# Altium schematic symbol library CM3_CM4_2021_Lib.SchLib: 258 symbols (part 2 of 4)
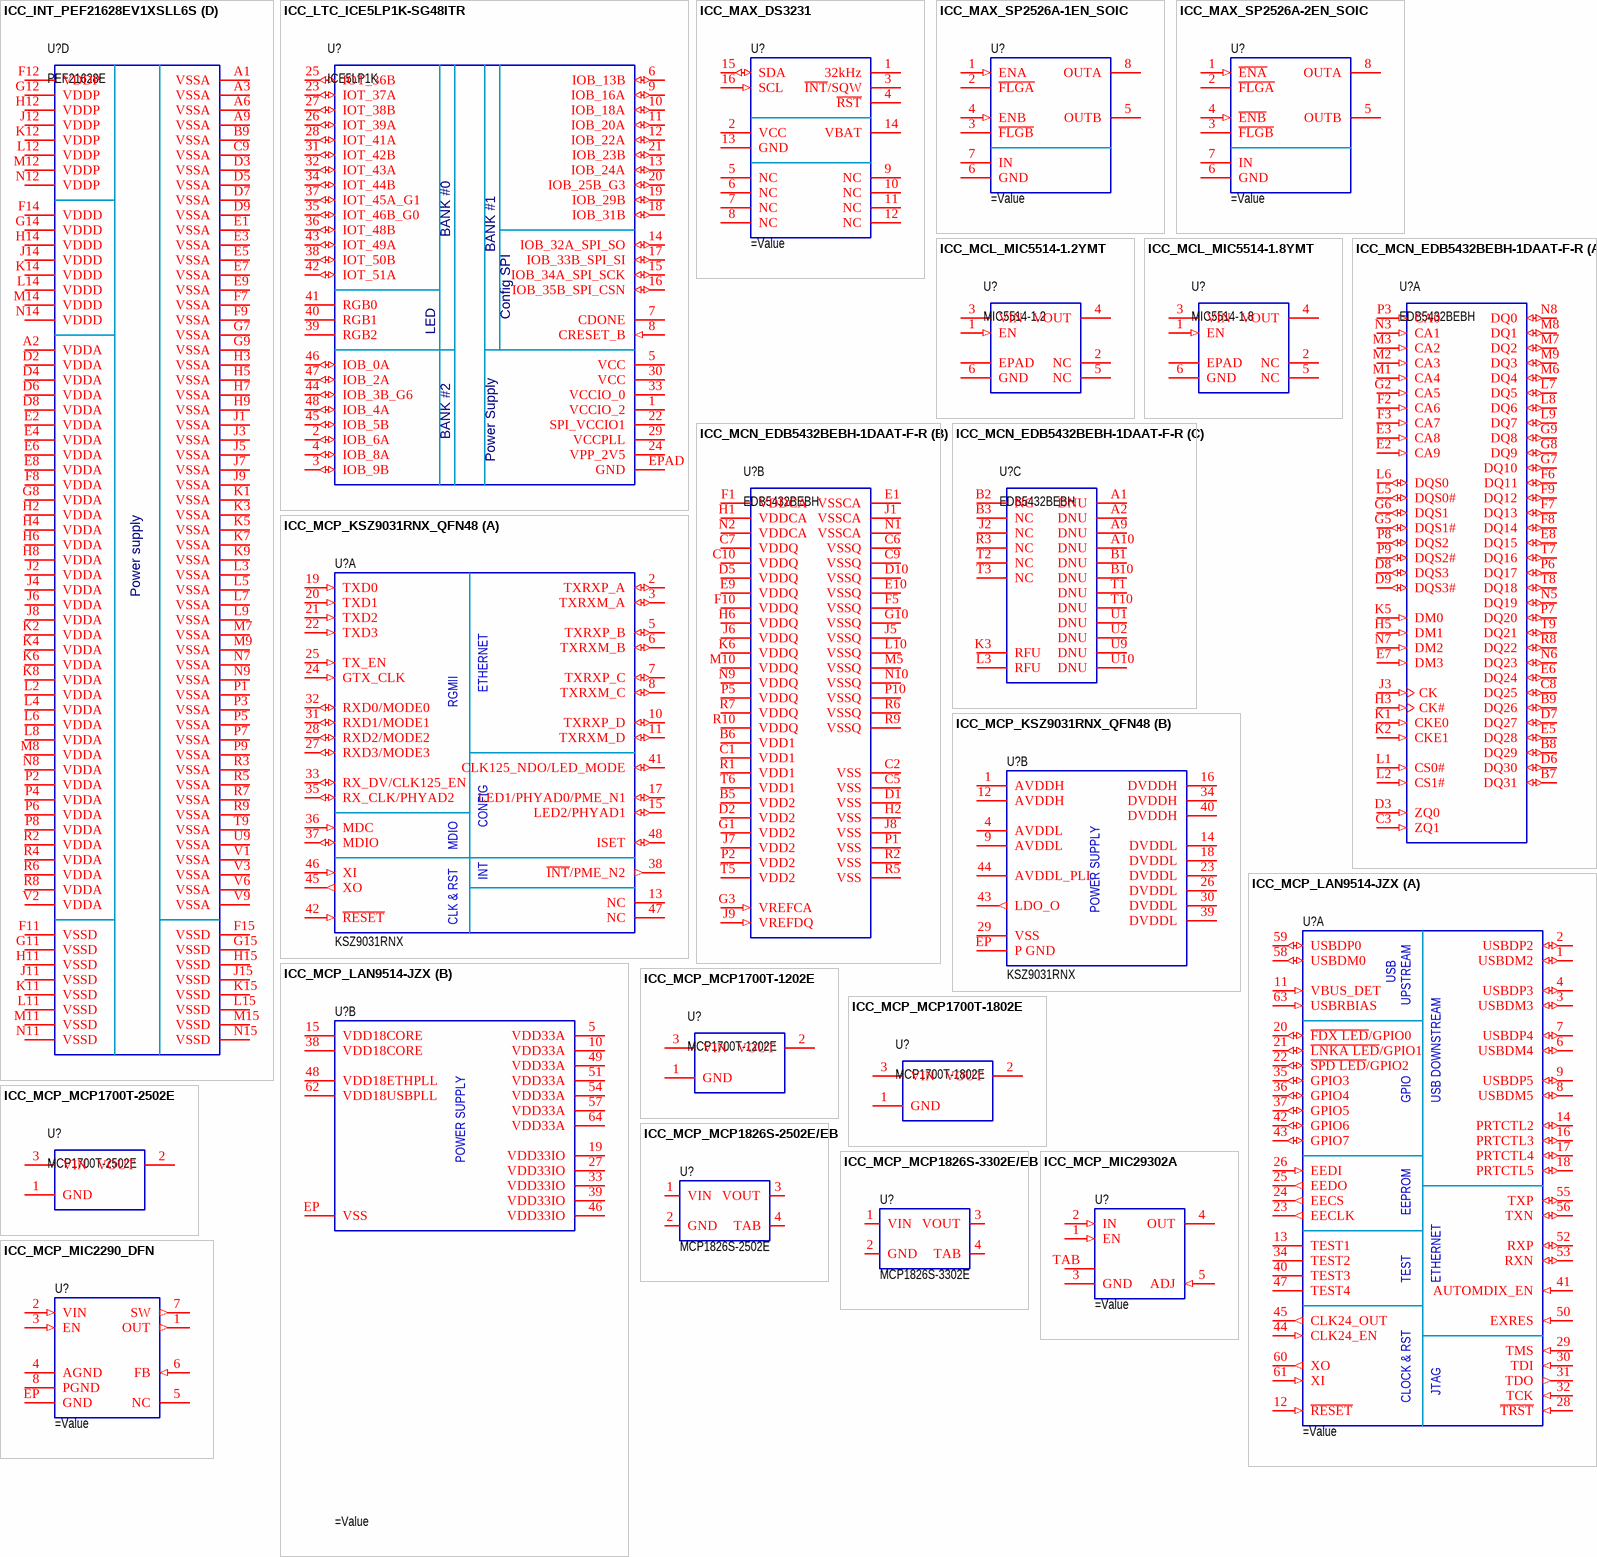
[diagram p16: symbols ICC_INT_PEF21628EV1XSLL6S to ICC_MCP_MIC29302A]

## ICC_MCL_MIC5514-1.8YMT
designator U?, comment MIC5514-1.8
ICC; Manufacturer: Micrel; MPN: MIC5514-1.8YMT; Specification: Low Voltage 300 mA LDO, 1.8V, Thin DFN6 Package; Component Type: IC; Mounting Type: SMD; Operating Temperature: -40°C to +125°C; Package: DFN6; Value: MIC5514-1.8
footprint TDFN6 (Footprint not found)
pins: 1 EN (in), 2 NC, 3 VIN (power), 4 VOUT (power), 5 NC, 6 GND (power), EPAD (power)

## ICC_MCN_EDB5432BEBH-1DAAT-F-R
designator U?, comment EDB5432BEBH
ICC; Manufacturer: Micron Technology; MPN: EDB5432BEBH-1DAAT-F-R; Specification: DRAM LPDDR2, 512Mbit, 16Mx32bit, 533 MHz, VFBGA 134 pin package; Component Type: IC; Mounting Type: SMD; Operating Temperature: -40°C to +105°C; Package: VFBGA134; Value: EDB5432BEBH
part A pins: B7 DQ31 (io) "Data input/output: Bidirectional data bus.", B8 DQ29 (io) "Data input/output: Bidirectional data bus.", B9 DQ26 (io) "Data input/output: Bidirectional data bus.", C3 ZQ1 (in) "External impedance (240 ohm): This signal is used to calibrate the device output impedance.", C8 DQ25 (io) "Data input/output: Bidirectional data bus.", D3 ZQ0 (in) "External impedance (240 ohm): This signal is used to calibrate the device output impedance.", D6 DQ30 (io) "Data input/output: Bidirectional data bus.", D7 DQ27 (io) "Data input/output: Bidirectional data bus.", D8 DQS3 (io) "Data strobe: The data strobe is bidirectional (used for read and write data) andcomplementary (DQS and DQS#). It is edge-aligned output with read data andcentered input with write data. DQS[3:0]/DQS[3:0]# is DQS for each of (See Datasheet)", D9 DQS3# (io) "Data strobe: The data strobe is bidirectional (used for read and write data) andcomplementary (DQS and DQS#). It is edge-aligned output with read data andcentered input with write data. DQS[3:0]/DQS[3:0]# is DQS for each of (See Datasheet)", E2 CA9 (in) "Command/address inputs: Provide the command and address inputs accordingto the command truth table.", E3 CA8 (in) "Command/address inputs: Provide the command and address inputs accordingto the command truth table.", E5 DQ28 (io) "Data input/output: Bidirectional data bus.", E6 DQ24 (io) "Data input/output: Bidirectional data bus.", E7 DM3 (in) "Input data mask: DM is an input mask signal for write data. Although DM ballsare input-only, the DM loading is designed to match that of DQ and DQS balls.DM[3:0] is DM for each of the four data bytes, respectively.", E8 DQ15 (io) "Data input/output: Bidirectional data bus.", F2 CA6 (in) "Command/address inputs: Provide the command and address inputs accordingto the command truth table.", F3 CA7 (in) "Command/address inputs: Provide the command and address inputs accordingto the command truth table.", F6 DQ11 (io) "Data input/output: Bidirectional data bus.", F7 DQ13 (io) "Data input/output: Bidirectional data bus.", F8 DQ14 (io) "Data input/output: Bidirectional data bus.", F9 DQ12 (io) "Data input/output: Bidirectional data bus.", G2 CA5 (in) "Command/address inputs: Provide the command and address inputs accordingto the command truth table.", G5 DQS1# (io) "Data strobe: The data strobe is bidirectional (used for read and write data) andcomplementary (DQS and DQS#). It is edge-aligned output with read data andcentered input with write data. DQS[3:0]/DQS[3:0]# is DQS for each of (See Datasheet)", G6 DQS1 (io) "Data strobe: The data strobe is bidirectional (used for read and write data) andcomplementary (DQS and DQS#). It is edge-aligned output with read data andcentered input with write data. DQS[3:0]/DQS[3:0]# is DQS for each of (See Datasheet)", G7 DQ10 (io) "Data input/output: Bidirectional data bus.", G8 DQ9 (io) "Data input/output: Bidirectional data bus.", G9 DQ8 (io) "Data input/output: Bidirectional data bus.", H3 CK# (in) "Clock: CK and CK# are differential clock inputs. All CA inputs are sampled onboth rising and falling edges of CK. CS and CKE inputs are sampled at the risingedge of CK. AC timings are referenced to clock.", H5 DM1 (in) "Input data mask: DM is an input mask signal for write data. Although DM ballsare input-only, the DM loading is designed to match that of DQ and DQS balls.DM[3:0] is DM for each of the four data bytes, respectively.", J3 CK (in) "Clock: CK and CK# are differential clock inputs. All CA inputs are sampled onboth rising and falling edges of CK. CS and CKE inputs are sampled at the risingedge of CK. AC timings are referenced to clock.", K1 CKE0 (in) "Clock enable: CKE HIGH activates and CKE LOW deactivates the internal clocksignals, input buffers, and output drivers. Power-saving modes are entered andexited via CKE transitions. CKE is considered part of the command code. (See Datasheet)", K2 CKE1 (in) "Clock enable: CKE HIGH activates and CKE LOW deactivates the internal clocksignals, input buffers, and output drivers. Power-saving modes are entered andexited via CKE transitions. CKE is considered part of the command code. (See Datasheet)", K5 DM0 (in) "Input data mask: DM is an input mask signal for write data. Although DM ballsare input-only, the DM loading is designed to match that of DQ and DQS balls.DM[3:0] is DM for each of the four data bytes, respectively.", L1 CS0# (in) "Chip select: CS# is considered part of the command code and is sampled at therising edge of CK.", L2 CS1# (in) "Chip select: CS# is considered part of the command code and is sampled at therising edge of CK.", L5 DQS0# (io) "Data strobe: The data strobe is bidirectional (used for read and write data) andcomplementary (DQS and DQS#). It is edge-aligned output with read data andcentered input with write data. DQS[3:0]/DQS[3:0]# is DQS for each of (See Datasheet)", L6 DQS0 (io) "Data strobe: The data strobe is bidirectional (used for read and write data) andcomplementary (DQS and DQS#). It is edge-aligned output with read data andcentered input with write data. DQS[3:0]/DQS[3:0]# is DQS for each of (See Datasheet)", L7 DQ5 (io) "Data input/output: Bidirectional data bus.", L8 DQ6 (io) "Data input/output: Bidirectional data bus.", L9 DQ7 (io) "Data input/output: Bidirectional data bus.", M1 CA4 (in) "Command/address inputs: Provide the command and address inputs accordingto the command truth table.", M2 CA3 (in) "Command/address inputs: Provide the command and address inputs accordingto the command truth table.", M3 CA2 (in) "Command/address inputs: Provide the command and address inputs accordingto the command truth table.", M6 DQ4 (io) "Data input/output: Bidirectional data bus.", M7 DQ2 (io) "Data input/output: Bidirectional data bus.", M8 DQ1 (io) "Data input/output: Bidirectional data bus.", M9 DQ3 (io) "Data input/output: Bidirectional data bus.", N3 CA1 (in) "Command/address inputs: Provide the command and address inputs accordingto the command truth table.", N5 DQ19 (io) "Data input/output: Bidirectional data bus.", N6 DQ23 (io) "Data input/output: Bidirectional data bus.", N7 DM2 (in) "Input data mask: DM is an input mask signal for write data. Although DM ballsare input-only, the DM loading is designed to match that of DQ and DQS balls.DM[3:0] is DM for each of the four data bytes, respectively.", N8 DQ0 (io) "Data input/output: Bidirectional data bus.", P3 CA0 (in) "Command/address inputs: Provide the command and address inputs accordingto the command truth table.", P6 DQ17 (io) "Data input/output: Bidirectional data bus.", P7 DQ20 (io) "Data input/output: Bidirectional data bus.", P8 DQS2 (io) "Data strobe: The data strobe is bidirectional (used for read and write data) andcomplementary (DQS and DQS#). It is edge-aligned output with read data andcentered input with write data. DQS[3:0]/DQS[3:0]# is DQS for each of (See Datasheet)", P9 DQS2# (io) "Data strobe: The data strobe is bidirectional (used for read and write data) andcomplementary (DQS and DQS#). It is edge-aligned output with read data andcentered input with write data. DQS[3:0]/DQS[3:0]# is DQS for each of (See Datasheet)", R8 DQ22 (io) "Data input/output: Bidirectional data bus.", T7 DQ16 (io) "Data input/output: Bidirectional data bus.", T8 DQ18 (io) "Data input/output: Bidirectional data bus.", T9 DQ21 (io) "Data input/output: Bidirectional data bus."
part B pins: B5 VDD2 (power) "Core power: Supply 2.", B6 VDD1 (power) "Core power: Supply 1.", C1 VDD1 (power) "Core power: Supply 1.", C2 VSS (power) "Common ground.", C5 VSS (power) "Common ground.", C6 VSSQ (power) "DQ ground: Isolated on the die for improved noise immunity.", C7 VDDQ (power) "DQ power supply: Isolated on the die for improved noise immunity.", C9 VSSQ (power) "DQ ground: Isolated on the die for improved noise immunity.", C10 VDDQ (power) "DQ power supply: Isolated on the die for improved noise immunity.", D1 VSS (power) "Common ground", D2 VDD2 (power) "Core power: Supply 2.", D5 VDDQ (power) "DQ power supply: Isolated on the die for improved noise immunity.", D10 VSSQ (power) "DQ ground: Isolated on the die for improved noise immunity.", E1 VSSCA (power) "Command/address ground: Isolated on the die for improved noise immunity.", E9 VDDQ (power) "DQ power supply: Isolated on the die for improved noise immunity.", E10 VSSQ (power) "DQ ground: Isolated on the die for improved noise immunity.", F1 VDDCA (power) "Command/address power supply: Command/address power supply.", F5 VSSQ (power) "DQ ground: Isolated on the die for improved noise immunity.", F10 VDDQ (power) "DQ power supply: Isolated on the die for improved noise immunity.", G1 VDD2 (power) "Core power: Supply 2.", G3 VREFCA (in) "Reference voltage: VREFCA is reference for command/address input buffers,VREFDQ is reference for DQ input buffers.", G10 VSSQ (power) "DQ ground: Isolated on the die for improved noise immunity.", H1 VDDCA (power) "Command/address power supply: Command/address power supply.", H2 VSS (power) "Common ground", H6 VDDQ (power) "DQ power supply: Isolated on the die for improved noise immunity.", J1 VSSCA (power) "Command/address ground: Isolated on the die for improved noise immunity.", J5 VSSQ (power) "DQ ground: Isolated on the die for improved noise immunity.", J6 VDDQ (power) "DQ power supply: Isolated on the die for improved noise immunity.", J7 VDD2 (power) "Core power: Supply 2.", J8 VSS (power) "Common ground", J9 VREFDQ (in) "Reference voltage: VREFCA is reference for command/address input buffers,VREFDQ is reference for DQ input buffers.", K6 VDDQ (power) "DQ power supply: Isolated on the die for improved noise immunity.", L10 VSSQ (power) "DQ ground: Isolated on the die for improved noise immunity.", M5 VSSQ (power) "DQ ground: Isolated on the die for improved noise immunity.", M10 VDDQ (power) "DQ power supply: Isolated on the die for improved noise immunity.", N1 VSSCA (power) "Command/address ground: Isolated on the die for improved noise immunity.", N2 VDDCA (power) "Command/address power supply: Command/address power supply.", N9 VDDQ (power) "DQ power supply: Isolated on the die for improved noise immunity.", N10 VSSQ (power) "DQ ground: Isolated on the die for improved noise immunity.", P1 VSS (power) "Common ground", P2 VDD2 (power) "Core power: Supply 2.", P5 VDDQ (power) "DQ power supply: Isolated on the die for improved noise immunity.", P10 VSSQ (power) "DQ ground: Isolated on the die for improved noise immunity.", R1 VDD1 (power) "Core power: Supply 1.", R2 VSS (power) "Common ground", R5 VSS (power) "Common ground", R6 VSSQ (power) "DQ ground: Isolated on the die for improved noise immunity.", R7 VDDQ (power) "DQ power supply: Isolated on the die for improved noise immunity.", R9 VSSQ (power) "DQ ground: Isolated on the die for improved noise immunity.", R10 VDDQ (power) "DQ power supply: Isolated on the die for improved noise immunity.", T5 VDD2 (power) "Core power: Supply 2.", T6 VDD1 (power) "Core power: Supply 1."
part C pins: A1 DNU "Do not use: Must be grounded or left floating.", A2 DNU "Do not use: Must be grounded or left floating.", A9 DNU "Do not use: Must be grounded or left floating.", A10 DNU "Do not use: Must be grounded or left floating.", B1 DNU "Do not use: Must be grounded or left floating.", B2 NC "No connect: Not internally connected.", B3 NC "No connect: Not internally connected.", B10 DNU "Do not use: Must be grounded or left floating.", J2 NC "No connect: Not internally connected.", K3 RFU, L3 RFU, R3 NC "No connect: Not internally connected.", T1 DNU "Do not use: Must be grounded or left floating.", T2 NC "No connect: Not internally connected.", T3 NC "No connect: Not internally connected.", T10 DNU "Do not use: Must be grounded or left floating.", U1 DNU "Do not use: Must be grounded or left floating.", U2 DNU "Do not use: Must be grounded or left floating.", U9 DNU "Do not use: Must be grounded or left floating.", U10 DNU "Do not use: Must be grounded or left floating."

## ICC_MCP_KSZ9031RNX_QFN48
designator U?, comment KSZ9031RNX  (value not drawn)
IC; GbE PHY;; Manufacturer: Microchip Technology; MPN: *; Value: KSZ9031RNX
part A pins: 2 TXRXP_A (io), 3 TXRXM_A (io), 5 TXRXP_B (io), 6 TXRXM_B (io), 7 TXRXP_C (io), 8 TXRXM_C (io), 10 TXRXP_D (io), 11 TXRXM_D (io), 13 NC, 15 LED2/PHYAD1 (io), 17 LED1/PHYAD0/PME_N1 (io), 19 TXD0 (in), 20 TXD1 (in), 21 TXD2 (in), 22 TXD3 (in), 24 GTX_CLK (in), 25 TX_EN (in), 27 RXD3/MODE3 (io), 28 RXD2/MODE2 (io), 31 RXD1/MODE1 (io), 32 RXD0/MODE0 (io), 33 RX_DV/CLK125_EN (io), 35 RX_CLK/PHYAD2 (io), 36 MDC (in), 37 MDIO (io), 38 ~{INT}/PME_N2 (out), 41 CLK125_NDO/LED_MODE (io), 42 ~{RESET} (in), 45 XO (out), 46 XI (in), 47 NC, 48 ISET (io)
part B pins: 1 AVDDH (power), 4 AVDDL (power), 9 AVDDL (power), 12 AVDDH (power), 14 DVDDL (power), 16 DVDDH (power), 18 DVDDL (power), 23 DVDDL (power), 26 DVDDL (power), 29 VSS (power), 30 DVDDL (power), 34 DVDDH (power), 39 DVDDL (power), 40 DVDDH (power), 43 LDO_O (out), 44 AVDDL_PLL (power), EP P GND (power)
part A text: ETHERNET; RGMII; CONFIG; INT; CLK & RST
part B text: POWER SUPPLY

## ICC_MCP_LAN9514-JZX
designator U?
IC; USB Hub;
part A pins: 1 USBDM2 (io), 2 USBDP2 (io), 3 USBDM3 (io), 4 USBDP3 (io), 6 USBDM4 (io), 7 USBDP4 (io), 8 USBDM5 (io), 9 USBDP5 (io), 11 VBUS_DET (in), 12 ~{RESET} (in), 13 TEST1, 14 PRTCTL2 (io), 16 PRTCTL3 (io), 17 PRTCTL4 (io), 18 PRTCTL5 (io), 20 ~{FDX LED}/GPIO0 (io), 21 ~{LNKA LED}/GPIO1 (io), 22 ~{SPD LED}/GPIO2 (io), 23 EECLK (out), 24 EECS (out), 25 EEDO (out), 26 EEDI (in), 28 ~{TRST} (in), 29 TMS (in), 30 TDI (in), 31 TDO (out), 32 TCK (in), 34 TEST2, 35 GPIO3 (io), 36 GPIO4 (io), 37 GPIO5 (io), 40 TEST3, 41 AUTOMDIX_EN (in), 42 GPIO6 (io), 43 GPIO7 (io), 44 CLK24_EN (in), 45 CLK24_OUT (out), 47 TEST4, 50 EXRES (in), 52 RXP (io), 53 RXN (io), 55 TXP (io), 56 TXN (io), 58 USBDM0 (io), 59 USBDP0 (io), 60 XO (out), 61 XI (in), 63 USBRBIAS (in)
part B pins: 5 VDD33A (power), 10 VDD33A (power), 15 VDD18CORE (power), 19 VDD33IO (power), 27 VDD33IO (power), 33 VDD33IO (power), 38 VDD18CORE (power), 39 VDD33IO (power), 46 VDD33IO (power), 48 VDD18ETHPLL (power), 49 VDD33A (power), 51 VDD33A (power), 54 VDD33A (power), 57 VDD33A (power), 62 VDD18USBPLL (power), 64 VDD33A (power), EP VSS (power)
part A text: USB; UPSTREAM; GPIO; USB DOWNSTREAM; EEPROM; TEST; ETHERNET; JTAG; CLOCK & RST
part B text: POWER SUPPLY

## ICC_MCP_MCP1700T-1202E
designator U?, comment MCP1700T-1202E
ICC; Manufacturer: Microchip Technology; MPN: MCP1700T-1202E/TT; Specification: Low quiescent current LDO, Vout = 1.2V, 200 mA, SOT23 Package; Component Type: IC; Mounting Type: SMD; Operating Temperature: -40°C to +125°C; Package: SOT23-3; Value: MCP1700T-1202E
footprint SOT23-3
pins: 1 GND (power), 2 VOUT (power), 3 VIN (power)

## ICC_MCP_MCP1700T-1802E
designator U?, comment MCP1700T-1802E
ICC; Manufacturer: Microchip Technology; MPN: MCP1700T-1802E/TT; Specification: Low quiescent current LDO, Vout = 1.8V, 200 mA, SOT23 Package; Component Type: IC; Mounting Type: SMD; Operating Temperature: -40°C to +125°C; Package: SOT23-3; Value: MCP1700T-1802E
footprint SOT23-3
pins: 1 GND (power), 2 VOUT (power), 3 VIN (power)

## ICC_MCP_MCP1700T-2502E
designator U?, comment MCP1700T-2502E
ICC; Manufacturer: Microchip Technology; MPN: MCP1700T-2502E/TT; Specification: Low quiescent current LDO, Vout = 2.5V, 250 mA, SOT23 Package; Component Type: IC; Mounting Type: SMD; Operating Temperature: -40°C to +125°C; Package: SOT23-3; Value: MCP1700T-2502E
footprint SOT23-3
pins: 1 GND (power), 2 VOUT (power), 3 VIN (power)

## ICC_MCP_MCP1826S-2502E/EB
designator U?, comment MCP1826S-2502E
IC; Manufacturer: Microchip Technology; MPN: MCP1826S-2502E/EB; Replacement: YES; Specification: LDO voltage regulator, low quiescent current, 2.5V, 1A, DDPAK-3 package; Component Type: IC; Mounting Type: SMD; Operating Temperature: -40°C to +125°C; Package: DDPAK-3 (TO-263-3); System: ?; Value: MCP1826S-2502E
footprint ICC_DDPAK_TO263-3
pins: 1 VIN (power), 2 GND (power), 3 VOUT (power), 4 TAB (power)

## ICC_MCP_MCP1826S-3302E/EB
designator U?, comment MCP1826S-3302E
IC; Manufacturer: Microchip Technology; MPN: MCP1826S-3302E/EB; Replacement: YES; Specification: LDO voltage regulator, low quiescent current, 3.3V, 1A, DDPAK-3 package; Component Type: IC; Mounting Type: SMD; Operating Temperature: -40°C to +125°C; Package: DDPAK-3 (TO-263-3); System: ?; Value: MCP1826S-3302E
footprint ICC_DDPAK_TO263-3
pins: 1 VIN (power), 2 GND (power), 3 VOUT (power), 4 TAB (power)

## ICC_MCP_MIC2290_DFN
designator U?
IC; SMPS Regulator;
pins: 1 OUT (out), 2 VIN (in), 3 EN (in), 4 AGND (power), 5 NC, 6 FB (in), 7 SW (out), 8 PGND (power), EP GND (power)

## ICC_MCP_MIC29302A
designator U?
IC; LDO Regulator;
pins: 1 EN (in), 2 IN (in), 3 GND (power), 4 OUT (power), 5 ADJ (in), TAB

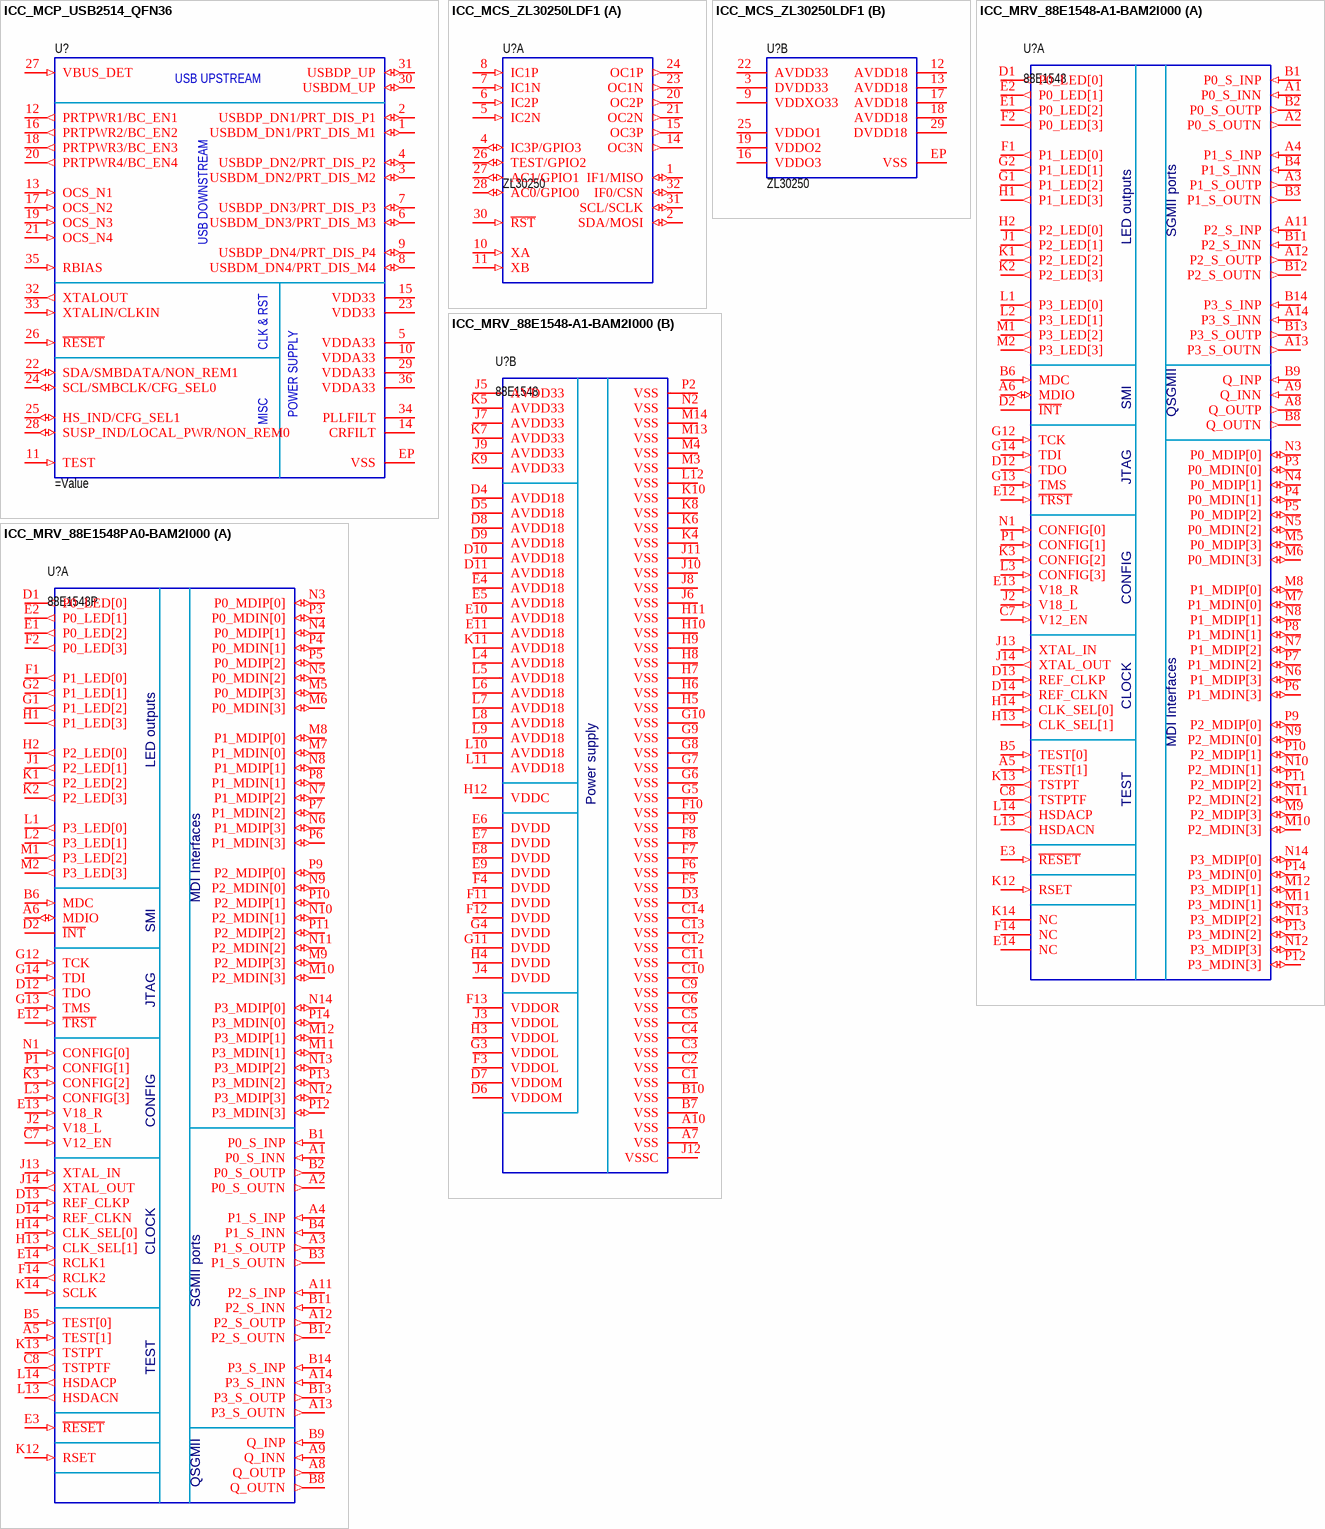
[diagram p7: symbols ICC_MCP_USB2514_QFN36 to ICC_MRV_88E1548PA0-BAM2I000]

## ICC_MCP_USB2514_QFN36
designator U?
IC; USB Hub;
pins: 1 USBDM_DN1/PRT_DIS_M1 (io), 2 USBDP_DN1/PRT_DIS_P1 (io), 3 USBDM_DN2/PRT_DIS_M2 (io), 4 USBDP_DN2/PRT_DIS_P2 (io), 5 VDDA33 (power), 6 USBDM_DN3/PRT_DIS_M3 (io), 7 USBDP_DN3/PRT_DIS_P3 (io), 8 USBDM_DN4/PRT_DIS_M4 (io), 9 USBDP_DN4/PRT_DIS_P4 (io), 10 VDDA33 (power), 11 TEST (in), 12 PRTPWR1/BC_EN1 (out), 13 OCS_N1 (in), 14 CRFILT (power), 15 VDD33 (power), 16 PRTPWR2/BC_EN2 (out), 17 OCS_N2 (in), 18 PRTPWR3/BC_EN3 (out), 19 OCS_N3 (in), 20 PRTPWR4/BC_EN4 (out), 21 OCS_N4 (in), 22 SDA/SMBDATA/NON_REM1 (io), 23 VDD33 (power), 24 SCL/SMBCLK/CFG_SEL0 (io), 25 HS_IND/CFG_SEL1 (io), 26 ~{RESET} (in), 27 VBUS_DET (in), 28 SUSP_IND/LOCAL_PWR/NON_REM0 (io), 29 VDDA33 (power), 30 USBDM_UP (io), 31 USBDP_UP (io), 32 XTALOUT (out), 33 XTALIN/CLKIN (in), 34 PLLFILT (power), 35 RBIAS (in), 36 VDDA33 (power), EP VSS (power)
text: USB UPSTREAM; USB DOWNSTREAM; CLK & RST; POWER SUPPLY; MISC

## ICC_MCS_ZL30250LDF1
designator U?, comment ZL30250
ICC; Manufacturer: Microsemi; MPN: ZL30250LDF1; Specification: 4-input, 3-output clock multiplier and frequency synthesizer, QFN32 package; Component Type: IC; Mounting Type: SMD; Operating Temperature: -40°C to +85°C; Package: QFN32; Value: ZL30250
footprint TDFN6 (Footprint not found)
part A pins: 1 IF1/MISO (io), 2 SDA/MOSI (io), 4 IC3P/GPIO3 (io), 5 IC2N (in), 6 IC2P (in), 7 IC1N (in), 8 IC1P (in), 10 XA (in), 11 XB (in), 14 OC3N (out), 15 OC3P (out), 20 OC2P (out), 21 OC2N (out), 23 OC1N (out), 24 OC1P (out), 26 TEST/GPIO2 (io), 27 AC1/GPIO1 (io), 28 AC0/GPIO0 (io), 30 ~{RST} (in), 31 SCL/SCLK (io), 32 IF0/CSN (io)
part B pins: 3 DVDD33 (power), 9 VDDXO33 (power), 12 AVDD18 (power), 13 AVDD18 (power), 16 VDDO3 (power), 17 AVDD18 (power), 18 AVDD18 (power), 19 VDDO2 (power), 22 AVDD33 (power), 25 VDDO1 (power), 29 DVDD18 (power), EP VSS (power)

## ICC_MRV_88E1548-A1-BAM2I000
designator U?, comment 88E1548
ICC; Manufacturer: Marvell Semiconductor; MPN: 88E1548-A1-BAM2I000; Specification: Quad-port 10/100/1000Mbps PHY with QSGMII, SGMII, PTP, SyncE, 196 pin TFBGA package; Component Type: IC; Mounting Type: SMD; Operating Temperature: -40°C to +85°C; Package: TFBGA196; Value: 88E1548
footprint ICC_TFBGA196-1500X1500X150P0.50 (BGA, 196-Leads, Body 15,00x15,00mmx1,50mm, Pitch 1,00mm)
part A pins: A1 P0_S_INN (in), A2 P0_S_OUTN (out), A3 P1_S_OUTP (out), A4 P1_S_INP (in), A5 TEST[1] (in), A6 MDIO (io), A8 Q_OUTP (out), A9 Q_INN (in), A11 P2_S_INP (in), A12 P2_S_OUTP (out), A13 P3_S_OUTN (out), A14 P3_S_INN (in), B1 P0_S_INP (in), B2 P0_S_OUTP (out), B3 P1_S_OUTN (out), B4 P1_S_INN (in), B5 TEST[0] (in), B6 MDC (in), B8 Q_OUTN (out), B9 Q_INP (in), B11 P2_S_INN (in), B12 P2_S_OUTN (out), B13 P3_S_OUTP (out), B14 P3_S_INP (in), C7 V12_EN (in), C8 TSTPTF (out), D1 P0_LED[0] (out), D2 ~{INT} (oc), D12 TDO (out), D13 REF_CLKP (in), D14 REF_CLKN (in), E1 P0_LED[2] (out), E2 P0_LED[1] (out), E3 ~{RESET} (in), E12 ~{TRST} (in), E13 V18_R (in), E14 NC, F1 P1_LED[0] (out), F2 P0_LED[3] (out), F14 NC, G1 P1_LED[2] (out), G2 P1_LED[1] (out), G12 TCK (in), G13 TMS (in), G14 TDI (in), H1 P1_LED[3] (out), H2 P2_LED[0] (out), H13 CLK_SEL[1] (in), H14 CLK_SEL[0] (in), J1 P2_LED[1] (out), J2 V18_L (in), J13 XTAL_IN (in), J14 XTAL_OUT (out), K1 P2_LED[2] (out), K2 P2_LED[3] (out), K3 CONFIG[2] (in), K12 RSET (in), K13 TSTPT (out), K14 NC, L1 P3_LED[0] (out), L2 P3_LED[1] (out), L3 CONFIG[3] (in), L13 HSDACN (out), L14 HSDACP (out), M1 P3_LED[2] (out), M2 P3_LED[3] (out), M5 P0_MDIP[3] (io), M6 P0_MDIN[3] (io), M7 P1_MDIN[0] (io), M8 P1_MDIP[0] (io), M9 P2_MDIP[3] (io), M10 P2_MDIN[3] (io), M11 P3_MDIN[1] (io), M12 P3_MDIP[1] (io), N1 CONFIG[0] (in), N3 P0_MDIP[0] (io), N4 P0_MDIP[1] (io), N5 P0_MDIN[2] (io), N6 P1_MDIP[3] (io), N7 P1_MDIP[2] (io), N8 P1_MDIP[1] (io), N9 P2_MDIN[0] (io), N10 P2_MDIN[1] (io), N11 P2_MDIN[2] (io), N12 P3_MDIP[3] (io), N13 P3_MDIP[2] (io), N14 P3_MDIP[0] (io), P1 CONFIG[1] (in), P3 P0_MDIN[0] (io), P4 P0_MDIN[1] (io), P5 P0_MDIP[2] (io), P6 P1_MDIN[3] (io), P7 P1_MDIN[2] (io), P8 P1_MDIN[1] (io), P9 P2_MDIP[0] (io), P10 P2_MDIP[1] (io), P11 P2_MDIP[2] (io), P12 P3_MDIN[3] (io), P13 P3_MDIN[2] (io), P14 P3_MDIN[0] (io)
part B pins: A7 VSS (power), A10 VSS (power), B7 VSS (power), B10 VSS (power), C1 VSS (power), C2 VSS (power), C3 VSS (power), C4 VSS (power), C5 VSS (power), C6 VSS (power), C9 VSS (power), C10 VSS (power), C11 VSS (power), C12 VSS (power), C13 VSS (power), C14 VSS (power), D3 VSS (power), D4 AVDD18 (power), D5 AVDD18 (power), D6 VDDOM (power), D7 VDDOM (power), D8 AVDD18 (power), D9 AVDD18 (power), D10 AVDD18 (power), D11 AVDD18 (power), E4 AVDD18 (power), E5 AVDD18 (power), E6 DVDD (power), E7 DVDD (power), E8 DVDD (power), E9 DVDD (power), E10 AVDD18 (power), E11 AVDD18 (power), F3 VDDOL (power), F4 DVDD (power), F5 VSS (power), F6 VSS (power), F7 VSS (power), F8 VSS (power), F9 VSS (power), F10 VSS (power), F11 DVDD (power), F12 DVDD (power), F13 VDDOR (power), G3 VDDOL (power), G4 DVDD (power), G5 VSS (power), G6 VSS (power), G7 VSS (power), G8 VSS (power), G9 VSS (power), G10 VSS (power), G11 DVDD (power), H3 VDDOL (power), H4 DVDD (power), H5 VSS (power), H6 VSS (power), H7 VSS (power), H8 VSS (power), H9 VSS (power), H10 VSS (power), H11 VSS (power), H12 VDDC (power), J3 VDDOL (power), J4 DVDD (power), J5 AVDD33 (power), J6 VSS (power), J7 AVDD33 (power), J8 VSS (power), J9 AVDD33 (power), J10 VSS (power), J11 VSS (power), J12 VSSC (power), K4 VSS (power), K5 AVDD33 (power), K6 VSS (power), K7 AVDD33 (power), K8 VSS (power), K9 AVDD33 (power), K10 VSS (power), K11 AVDD18 (power), L4 AVDD18 (power), L5 AVDD18 (power), L6 AVDD18 (power), L7 AVDD18 (power), L8 AVDD18 (power), L9 AVDD18 (power), L10 AVDD18 (power), L11 AVDD18 (power), L12 VSS (power), M3 VSS (power), M4 VSS (power), M13 VSS (power), M14 VSS (power), N2 VSS (power), P2 VSS (power)
part A text: SGMII ports; LED outputs; SMI; QSGMII; JTAG; CONFIG; CLOCK; MDI Interfaces; TEST
part B text: Power supply

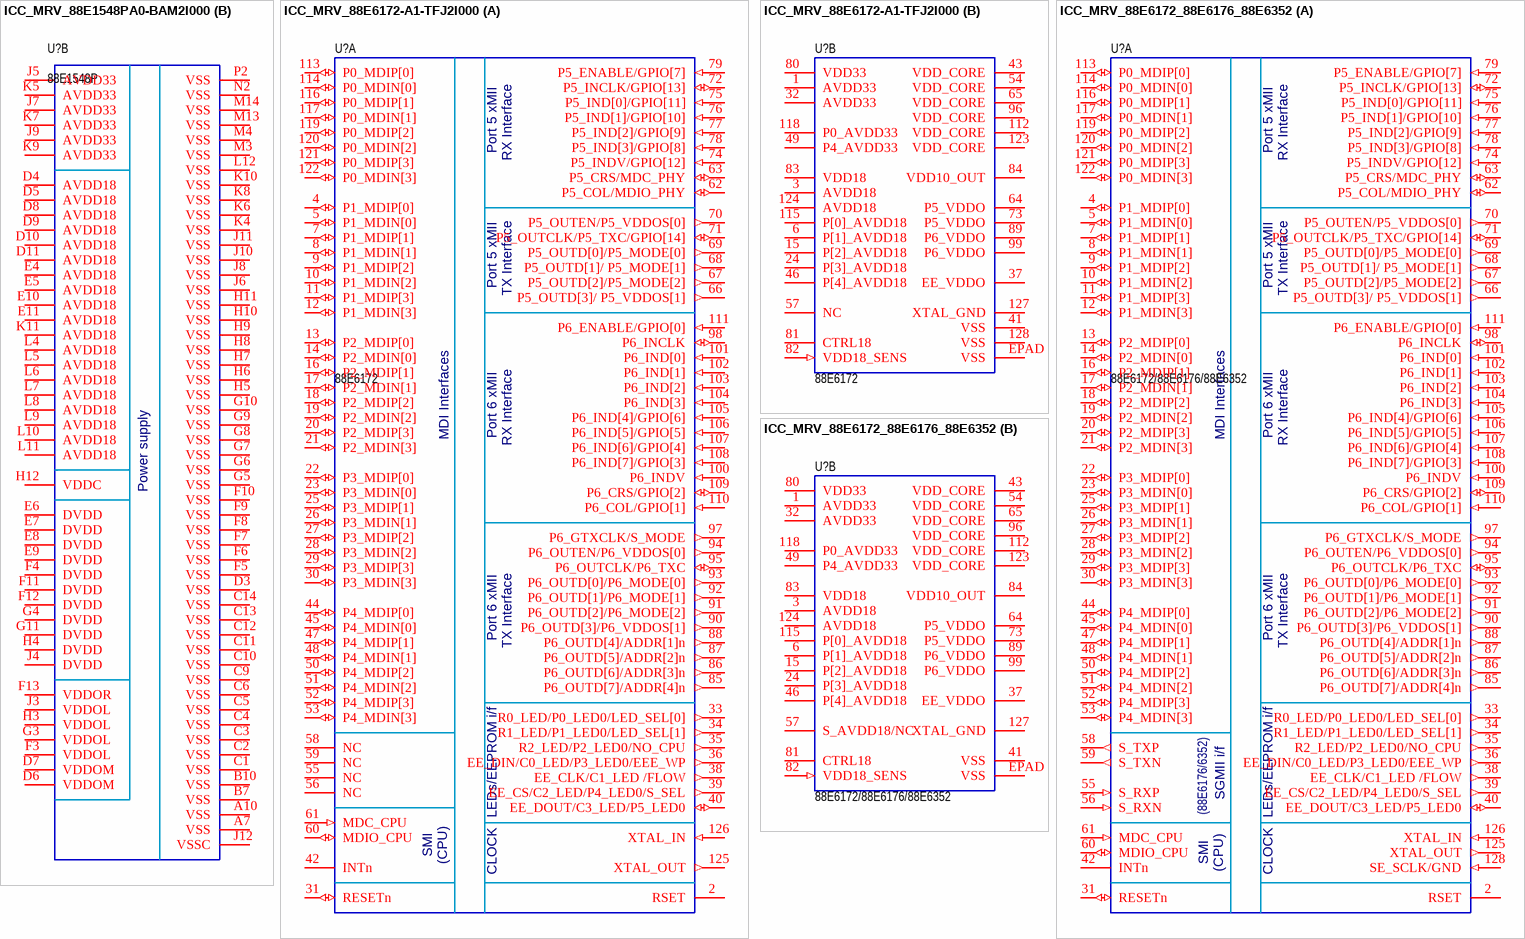
[diagram p8: symbols ICC_MRV_88E1548PA0-BAM2I000 to ICC_MRV_88E6172_88E6176_88E6352]

## ICC_MRV_88E1548PA0-BAM2I000
designator U?, comment 88E1548P
ICC; Manufacturer: Marvell Semiconductor; MPN: 88E1548PA0-BAM2I000; Specification: Quad-port 10/100/1000Mbps PHY with QSGMII, SGMII, PTP, SyncE, MACsec, 196 pin TFBGA package; Component Type: IC; Mounting Type: SMD; Operating Temperature: -40°C to +85°C; Package: TFBGA196; Value: 88E1548P
footprint ICC_TFBGA196-1500X1500X150P0.50 (BGA, 196-Leads, Body 15,00x15,00mmx1,50mm, Pitch 1,00mm)
part A pins: A1 P0_S_INN (in), A2 P0_S_OUTN (out), A3 P1_S_OUTP (out), A4 P1_S_INP (in), A5 TEST[1] (in), A6 MDIO (io), A8 Q_OUTP (out), A9 Q_INN (in), A11 P2_S_INP (in), A12 P2_S_OUTP (out), A13 P3_S_OUTN (out), A14 P3_S_INN (in), B1 P0_S_INP (in), B2 P0_S_OUTP (out), B3 P1_S_OUTN (out), B4 P1_S_INN (in), B5 TEST[0] (in), B6 MDC (in), B8 Q_OUTN (out), B9 Q_INP (in), B11 P2_S_INN (in), B12 P2_S_OUTN (out), B13 P3_S_OUTP (out), B14 P3_S_INP (in), C7 V12_EN (in), C8 TSTPTF (out), D1 P0_LED[0] (out), D2 ~{INT} (oc), D12 TDO (out), D13 REF_CLKP (in), D14 REF_CLKN (in), E1 P0_LED[2] (out), E2 P0_LED[1] (out), E3 ~{RESET} (in), E12 ~{TRST} (in), E13 V18_R (in), E14 RCLK1 (out), F1 P1_LED[0] (out), F2 P0_LED[3] (out), F14 RCLK2 (out), G1 P1_LED[2] (out), G2 P1_LED[1] (out), G12 TCK (in), G13 TMS (in), G14 TDI (in), H1 P1_LED[3] (out), H2 P2_LED[0] (out), H13 CLK_SEL[1] (in), H14 CLK_SEL[0] (in), J1 P2_LED[1] (out), J2 V18_L (in), J13 XTAL_IN (in), J14 XTAL_OUT (out), K1 P2_LED[2] (out), K2 P2_LED[3] (out), K3 CONFIG[2] (in), K12 RSET (in), K13 TSTPT (out), K14 SCLK (in), L1 P3_LED[0] (out), L2 P3_LED[1] (out), L3 CONFIG[3] (in), L13 HSDACN (out), L14 HSDACP (out), M1 P3_LED[2] (out), M2 P3_LED[3] (out), M5 P0_MDIP[3] (io), M6 P0_MDIN[3] (io), M7 P1_MDIN[0] (io), M8 P1_MDIP[0] (io), M9 P2_MDIP[3] (io), M10 P2_MDIN[3] (io), M11 P3_MDIN[1] (io), M12 P3_MDIP[1] (io), N1 CONFIG[0] (in), N3 P0_MDIP[0] (io), N4 P0_MDIP[1] (io), N5 P0_MDIN[2] (io), N6 P1_MDIP[3] (io), N7 P1_MDIP[2] (io), N8 P1_MDIP[1] (io), N9 P2_MDIN[0] (io), N10 P2_MDIN[1] (io), N11 P2_MDIN[2] (io), N12 P3_MDIP[3] (io), N13 P3_MDIP[2] (io), N14 P3_MDIP[0] (io), P1 CONFIG[1] (in), P3 P0_MDIN[0] (io), P4 P0_MDIN[1] (io), P5 P0_MDIP[2] (io), P6 P1_MDIN[3] (io), P7 P1_MDIN[2] (io), P8 P1_MDIN[1] (io), P9 P2_MDIP[0] (io), P10 P2_MDIP[1] (io), P11 P2_MDIP[2] (io), P12 P3_MDIN[3] (io), P13 P3_MDIN[2] (io), P14 P3_MDIN[0] (io)
part B pins: A7 VSS (power), A10 VSS (power), B7 VSS (power), B10 VSS (power), C1 VSS (power), C2 VSS (power), C3 VSS (power), C4 VSS (power), C5 VSS (power), C6 VSS (power), C9 VSS (power), C10 VSS (power), C11 VSS (power), C12 VSS (power), C13 VSS (power), C14 VSS (power), D3 VSS (power), D4 AVDD18 (power), D5 AVDD18 (power), D6 VDDOM (power), D7 VDDOM (power), D8 AVDD18 (power), D9 AVDD18 (power), D10 AVDD18 (power), D11 AVDD18 (power), E4 AVDD18 (power), E5 AVDD18 (power), E6 DVDD (power), E7 DVDD (power), E8 DVDD (power), E9 DVDD (power), E10 AVDD18 (power), E11 AVDD18 (power), F3 VDDOL (power), F4 DVDD (power), F5 VSS (power), F6 VSS (power), F7 VSS (power), F8 VSS (power), F9 VSS (power), F10 VSS (power), F11 DVDD (power), F12 DVDD (power), F13 VDDOR (power), G3 VDDOL (power), G4 DVDD (power), G5 VSS (power), G6 VSS (power), G7 VSS (power), G8 VSS (power), G9 VSS (power), G10 VSS (power), G11 DVDD (power), H3 VDDOL (power), H4 DVDD (power), H5 VSS (power), H6 VSS (power), H7 VSS (power), H8 VSS (power), H9 VSS (power), H10 VSS (power), H11 VSS (power), H12 VDDC (power), J3 VDDOL (power), J4 DVDD (power), J5 AVDD33 (power), J6 VSS (power), J7 AVDD33 (power), J8 VSS (power), J9 AVDD33 (power), J10 VSS (power), J11 VSS (power), J12 VSSC (power), K4 VSS (power), K5 AVDD33 (power), K6 VSS (power), K7 AVDD33 (power), K8 VSS (power), K9 AVDD33 (power), K10 VSS (power), K11 AVDD18 (power), L4 AVDD18 (power), L5 AVDD18 (power), L6 AVDD18 (power), L7 AVDD18 (power), L8 AVDD18 (power), L9 AVDD18 (power), L10 AVDD18 (power), L11 AVDD18 (power), L12 VSS (power), M3 VSS (power), M4 VSS (power), M13 VSS (power), M14 VSS (power), N2 VSS (power), P2 VSS (power)
part A text: LED outputs; MDI Interfaces; SMI; JTAG; CONFIG; CLOCK; SGMII ports; TEST; QSGMII
part B text: Power supply

## ICC_MRV_88E6172-A1-TFJ2I000
designator U?, comment 88E6172
ICC; Manufacturer: Marvell Semiconductor; MPN: 88E6172-A1-TFJ2I000; Specification: 7xPort GbE Switch, 5xGE PHYs, 2xRGMII/MII/RGMII, QFP128 package; Component Type: IC; Mounting Type: SMD; Operating Temperature: -40°C to +85°C; Package: QFP128; Value: 88E6172
part A pins: 2 RSET, 4 P1_MDIP[0] (io), 5 P1_MDIN[0] (io), 7 P1_MDIP[1] (io), 8 P1_MDIN[1] (io), 9 P1_MDIP[2] (io), 10 P1_MDIN[2] (io), 11 P1_MDIP[3] (io), 12 P1_MDIN[3] (io), 13 P2_MDIP[0] (io), 14 P2_MDIN[0] (io), 16 P2_MDIP[1] (io), 17 P2_MDIN[1] (io), 18 P2_MDIP[2] (io), 19 P2_MDIN[2] (io), 20 P2_MDIP[3] (io), 21 P2_MDIN[3] (io), 22 P3_MDIP[0] (io), 23 P3_MDIN[0] (io), 25 P3_MDIP[1] (io), 26 P3_MDIN[1] (io), 27 P3_MDIP[2] (io), 28 P3_MDIN[2] (io), 29 P3_MDIP[3] (io), 30 P3_MDIN[3] (io), 31 RESETn (io), 33 R0_LED/P0_LED0/LED_SEL[0] (out), 34 R1_LED/P1_LED0/LED_SEL[1] (out), 35 R2_LED/P2_LED0/NO_CPU (out), 36 EE_DIN/C0_LED/P3_LED0/EEE_WP (out), 38 EE_CLK/C1_LED /FLOW (out), 39 EE_CS/C2_LED/P4_LED0/S_SEL (out), 40 EE_DOUT/C3_LED/P5_LED0 (io), 42 INTn (oc), 44 P4_MDIP[0] (io), 45 P4_MDIN[0] (io), 47 P4_MDIP[1] (io), 48 P4_MDIN[1] (io), 50 P4_MDIP[2] (io), 51 P4_MDIN[2] (io), 52 P4_MDIP[3] (io), 53 P4_MDIN[3] (io), 55 NC, 56 NC, 58 NC, 59 NC, 60 MDIO_CPU (io), 61 MDC_CPU (in), 62 P5_COL/MDIO_PHY (io), 63 P5_CRS/MDC_PHY (io), 66 P5_OUTD[3]/ P5_VDDOS[1] (out), 67 P5_OUTD[2]/P5_MODE[2] (out), 68 P5_OUTD[1]/ P5_MODE[1] (out), 69 P5_OUTD[0]/P5_MODE[0] (out), 70 P5_OUTEN/P5_VDDOS[0] (out), 71 P5_OUTCLK/P5_TXC/GPIO[14] (io), 72 P5_INCLK/GPIO[13] (io), 74 P5_INDV/GPIO[12] (in), 75 P5_IND[0]/GPIO[11] (in), 76 P5_IND[1]/GPIO[10] (in), 77 P5_IND[2]/GPIO[9] (in), 78 P5_IND[3]/GPIO[8] (in), 79 P5_ENABLE/GPIO[7] (in), 85 P6_OUTD[7]/ADDR[4]n (out), 86 P6_OUTD[6]/ADDR[3]n (out), 87 P6_OUTD[5]/ADDR[2]n (out), 88 P6_OUTD[4]/ADDR[1]n (out), 90 P6_OUTD[3]/P6_VDDOS[1] (out), 91 P6_OUTD[2]/P6_MODE[2] (out), 92 P6_OUTD[1]/P6_MODE[1] (out), 93 P6_OUTD[0]/P6_MODE[0] (out), 94 P6_OUTEN/P6_VDDOS[0] (out), 95 P6_OUTCLK/P6_TXC (io), 97 P6_GTXCLK/S_MODE (out), 98 P6_INCLK (io), 100 P6_INDV (in), 101 P6_IND[0] (in), 102 P6_IND[1] (in), 103 P6_IND[2] (in), 104 P6_IND[3] (in), 105 P6_IND[4]/GPIO[6] (in), 106 P6_IND[5]/GPIO[5] (in), 107 P6_IND[6]/GPIO[4] (in), 108 P6_IND[7]/GPIO[3] (in), 109 P6_CRS/GPIO[2] (io), 110 P6_COL/GPIO[1] (in), 111 P6_ENABLE/GPIO[0] (in), 113 P0_MDIP[0] (io), 114 P0_MDIN[0] (io), 116 P0_MDIP[1] (io), 117 P0_MDIN[1] (io), 119 P0_MDIP[2] (io), 120 P0_MDIN[2] (io), 121 P0_MDIP[3] (io), 122 P0_MDIN[3] (io), 125 XTAL_OUT (out), 126 XTAL_IN (in)
part B pins: 1 AVDD33 (power), 3 AVDD18 (power), 6 P[1]_AVDD18 (power), 15 P[2]_AVDD18 (power), 24 P[3]_AVDD18 (power), 32 AVDD33 (power), 37 EE_VDDO (power), 41 VSS (power), 43 VDD_CORE (power), 46 P[4]_AVDD18 (power), 49 P4_AVDD33 (power), 54 VDD_CORE (power), 57 NC, 64 P5_VDDO (power), 65 VDD_CORE (power), 73 P5_VDDO (power), 80 VDD33 (power), 81 CTRL18 (power), 82 VDD18_SENS (in), 83 VDD18 (power), 84 VDD10_OUT (power), 89 P6_VDDO (power), 96 VDD_CORE (power), 99 P6_VDDO (power), 112 VDD_CORE (power), 115 P[0]_AVDD18 (power), 118 P0_AVDD33 (power), 123 VDD_CORE (power), 124 AVDD18 (power), 127 XTAL_GND (power), 128 VSS (power), EPAD VSS (power)
part A text: Port 5 xMII; RX Interface; TX Interface; MDI Interfaces; Port 6 xMII; LEDs/EEPROM i/f; SMI; (CPU); CLOCK

## ICC_MRV_88E6172_88E6176_88E6352
designator U?, comment 88E6172/88E6176/88E6352
ICC; Manufacturer: Marvell Semiconductor; MPN: 88E6172/88E6176/88E6352-A1-TFJ2I000; Specification: 7xPort GbE Switch, 5xGE PHYs, 2xRGMII/MII/RGMII, optional AVB and 1xSerdes/SGMII, QFP128 package; Component Type: IC; Mounting Type: SMD; Operating Temperature: -40°C to +85°C; Package: QFP128; Value: 88E6172/88E6176/88E6352
part A pins: 2 RSET, 4 P1_MDIP[0] (io), 5 P1_MDIN[0] (io), 7 P1_MDIP[1] (io), 8 P1_MDIN[1] (io), 9 P1_MDIP[2] (io), 10 P1_MDIN[2] (io), 11 P1_MDIP[3] (io), 12 P1_MDIN[3] (io), 13 P2_MDIP[0] (io), 14 P2_MDIN[0] (io), 16 P2_MDIP[1] (io), 17 P2_MDIN[1] (io), 18 P2_MDIP[2] (io), 19 P2_MDIN[2] (io), 20 P2_MDIP[3] (io), 21 P2_MDIN[3] (io), 22 P3_MDIP[0] (io), 23 P3_MDIN[0] (io), 25 P3_MDIP[1] (io), 26 P3_MDIN[1] (io), 27 P3_MDIP[2] (io), 28 P3_MDIN[2] (io), 29 P3_MDIP[3] (io), 30 P3_MDIN[3] (io), 31 RESETn (io), 33 R0_LED/P0_LED0/LED_SEL[0] (out), 34 R1_LED/P1_LED0/LED_SEL[1] (out), 35 R2_LED/P2_LED0/NO_CPU (out), 36 EE_DIN/C0_LED/P3_LED0/EEE_WP (out), 38 EE_CLK/C1_LED /FLOW (out), 39 EE_CS/C2_LED/P4_LED0/S_SEL (out), 40 EE_DOUT/C3_LED/P5_LED0 (io), 42 INTn (oc), 44 P4_MDIP[0] (io), 45 P4_MDIN[0] (io), 47 P4_MDIP[1] (io), 48 P4_MDIN[1] (io), 50 P4_MDIP[2] (io), 51 P4_MDIN[2] (io), 52 P4_MDIP[3] (io), 53 P4_MDIN[3] (io), 55 S_RXP (in), 56 S_RXN (in), 58 S_TXP (out), 59 S_TXN (out), 60 MDIO_CPU (io), 61 MDC_CPU (in), 62 P5_COL/MDIO_PHY (io), 63 P5_CRS/MDC_PHY (io), 66 P5_OUTD[3]/ P5_VDDOS[1] (out), 67 P5_OUTD[2]/P5_MODE[2] (out), 68 P5_OUTD[1]/ P5_MODE[1] (out), 69 P5_OUTD[0]/P5_MODE[0] (out), 70 P5_OUTEN/P5_VDDOS[0] (out), 71 P5_OUTCLK/P5_TXC/GPIO[14] (io), 72 P5_INCLK/GPIO[13] (io), 74 P5_INDV/GPIO[12] (in), 75 P5_IND[0]/GPIO[11] (in), 76 P5_IND[1]/GPIO[10] (in), 77 P5_IND[2]/GPIO[9] (in), 78 P5_IND[3]/GPIO[8] (in), 79 P5_ENABLE/GPIO[7] (in), 85 P6_OUTD[7]/ADDR[4]n (out), 86 P6_OUTD[6]/ADDR[3]n (out), 87 P6_OUTD[5]/ADDR[2]n (out), 88 P6_OUTD[4]/ADDR[1]n (out), 90 P6_OUTD[3]/P6_VDDOS[1] (out), 91 P6_OUTD[2]/P6_MODE[2] (out), 92 P6_OUTD[1]/P6_MODE[1] (out), 93 P6_OUTD[0]/P6_MODE[0] (out), 94 P6_OUTEN/P6_VDDOS[0] (out), 95 P6_OUTCLK/P6_TXC (io), 97 P6_GTXCLK/S_MODE (out), 98 P6_INCLK (io), 100 P6_INDV (in), 101 P6_IND[0] (in), 102 P6_IND[1] (in), 103 P6_IND[2] (in), 104 P6_IND[3] (in), 105 P6_IND[4]/GPIO[6] (in), 106 P6_IND[5]/GPIO[5] (in), 107 P6_IND[6]/GPIO[4] (in), 108 P6_IND[7]/GPIO[3] (in), 109 P6_CRS/GPIO[2] (io), 110 P6_COL/GPIO[1] (in), 111 P6_ENABLE/GPIO[0] (in), 113 P0_MDIP[0] (io), 114 P0_MDIN[0] (io), 116 P0_MDIP[1] (io), 117 P0_MDIN[1] (io), 119 P0_MDIP[2] (io), 120 P0_MDIN[2] (io), 121 P0_MDIP[3] (io), 122 P0_MDIN[3] (io), 125 XTAL_OUT (out), 126 XTAL_IN (in), 128 SE_SCLK/GND (in)
part B pins: 1 AVDD33 (power), 3 AVDD18 (power), 6 P[1]_AVDD18 (power), 15 P[2]_AVDD18 (power), 24 P[3]_AVDD18 (power), 32 AVDD33 (power), 37 EE_VDDO (power), 41 VSS (power), 43 VDD_CORE (power), 46 P[4]_AVDD18 (power), 49 P4_AVDD33 (power), 54 VDD_CORE (power), 57 S_AVDD18/NC (power), 64 P5_VDDO (power), 65 VDD_CORE (power), 73 P5_VDDO (power), 80 VDD33 (power), 81 CTRL18 (power), 82 VDD18_SENS (in), 83 VDD18 (power), 84 VDD10_OUT (power), 89 P6_VDDO (power), 96 VDD_CORE (power), 99 P6_VDDO (power), 112 VDD_CORE (power), 115 P[0]_AVDD18 (power), 118 P0_AVDD33 (power), 123 VDD_CORE (power), 124 AVDD18 (power), 127 XTAL_GND (power), EPAD VSS (power)
part A text: Port 5 xMII; RX Interface; TX Interface; MDI Interfaces; Port 6 xMII; SGMII i/f; (88E6176/6352); LEDs/EEPROM i/f; SMI; (CPU); CLOCK

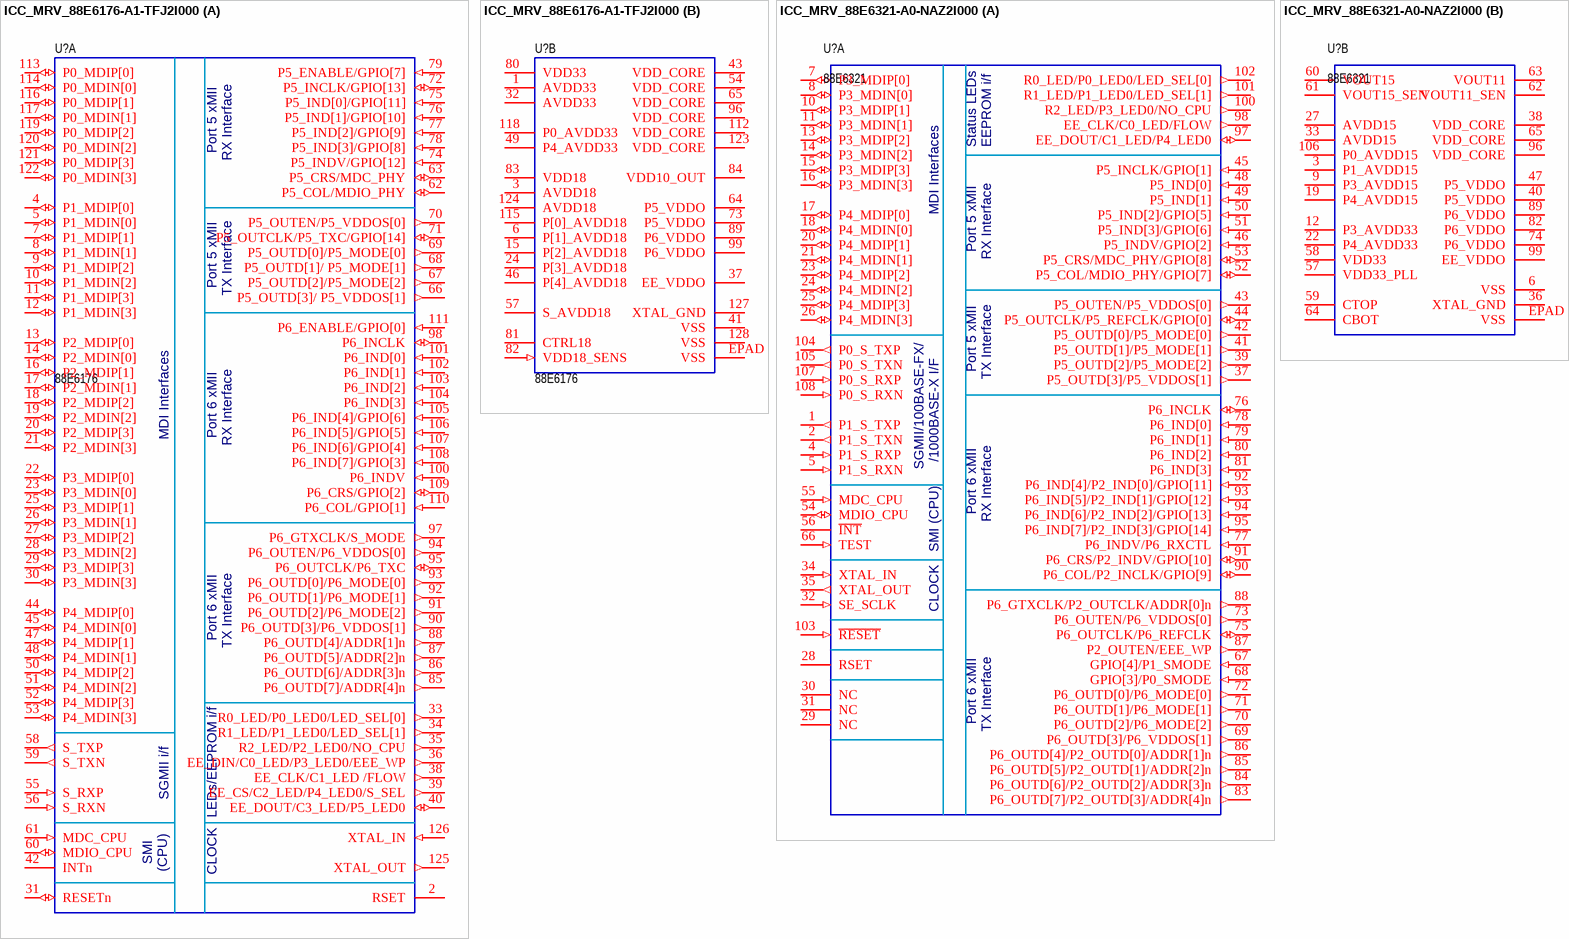
[diagram p9: symbols ICC_MRV_88E6176-A1-TFJ2I000 to ICC_MRV_88E6321-A0-NAZ2I000]

## ICC_MRV_88E6176-A1-TFJ2I000
designator U?, comment 88E6176
ICC; Manufacturer: Marvell Semiconductor; MPN: 88E6176-A1-TFJ2I000; Specification: 7xPort GbE Switch, 5xGE PHYs, 2xRGMII/MII/RGMII, 1xSerdes/SGMII, QFP128 package; Component Type: IC; Mounting Type: SMD; Operating Temperature: -40°C to +85°C; Package: QFP128; Value: 88E6176
part A pins: 2 RSET, 4 P1_MDIP[0] (io), 5 P1_MDIN[0] (io), 7 P1_MDIP[1] (io), 8 P1_MDIN[1] (io), 9 P1_MDIP[2] (io), 10 P1_MDIN[2] (io), 11 P1_MDIP[3] (io), 12 P1_MDIN[3] (io), 13 P2_MDIP[0] (io), 14 P2_MDIN[0] (io), 16 P2_MDIP[1] (io), 17 P2_MDIN[1] (io), 18 P2_MDIP[2] (io), 19 P2_MDIN[2] (io), 20 P2_MDIP[3] (io), 21 P2_MDIN[3] (io), 22 P3_MDIP[0] (io), 23 P3_MDIN[0] (io), 25 P3_MDIP[1] (io), 26 P3_MDIN[1] (io), 27 P3_MDIP[2] (io), 28 P3_MDIN[2] (io), 29 P3_MDIP[3] (io), 30 P3_MDIN[3] (io), 31 RESETn (io), 33 R0_LED/P0_LED0/LED_SEL[0] (out), 34 R1_LED/P1_LED0/LED_SEL[1] (out), 35 R2_LED/P2_LED0/NO_CPU (out), 36 EE_DIN/C0_LED/P3_LED0/EEE_WP (out), 38 EE_CLK/C1_LED /FLOW (out), 39 EE_CS/C2_LED/P4_LED0/S_SEL (out), 40 EE_DOUT/C3_LED/P5_LED0 (io), 42 INTn (oc), 44 P4_MDIP[0] (io), 45 P4_MDIN[0] (io), 47 P4_MDIP[1] (io), 48 P4_MDIN[1] (io), 50 P4_MDIP[2] (io), 51 P4_MDIN[2] (io), 52 P4_MDIP[3] (io), 53 P4_MDIN[3] (io), 55 S_RXP (in), 56 S_RXN (in), 58 S_TXP (out), 59 S_TXN (out), 60 MDIO_CPU (io), 61 MDC_CPU (in), 62 P5_COL/MDIO_PHY (io), 63 P5_CRS/MDC_PHY (io), 66 P5_OUTD[3]/ P5_VDDOS[1] (out), 67 P5_OUTD[2]/P5_MODE[2] (out), 68 P5_OUTD[1]/ P5_MODE[1] (out), 69 P5_OUTD[0]/P5_MODE[0] (out), 70 P5_OUTEN/P5_VDDOS[0] (out), 71 P5_OUTCLK/P5_TXC/GPIO[14] (io), 72 P5_INCLK/GPIO[13] (io), 74 P5_INDV/GPIO[12] (in), 75 P5_IND[0]/GPIO[11] (in), 76 P5_IND[1]/GPIO[10] (in), 77 P5_IND[2]/GPIO[9] (in), 78 P5_IND[3]/GPIO[8] (in), 79 P5_ENABLE/GPIO[7] (in), 85 P6_OUTD[7]/ADDR[4]n (out), 86 P6_OUTD[6]/ADDR[3]n (out), 87 P6_OUTD[5]/ADDR[2]n (out), 88 P6_OUTD[4]/ADDR[1]n (out), 90 P6_OUTD[3]/P6_VDDOS[1] (out), 91 P6_OUTD[2]/P6_MODE[2] (out), 92 P6_OUTD[1]/P6_MODE[1] (out), 93 P6_OUTD[0]/P6_MODE[0] (out), 94 P6_OUTEN/P6_VDDOS[0] (out), 95 P6_OUTCLK/P6_TXC (io), 97 P6_GTXCLK/S_MODE (out), 98 P6_INCLK (io), 100 P6_INDV (in), 101 P6_IND[0] (in), 102 P6_IND[1] (in), 103 P6_IND[2] (in), 104 P6_IND[3] (in), 105 P6_IND[4]/GPIO[6] (in), 106 P6_IND[5]/GPIO[5] (in), 107 P6_IND[6]/GPIO[4] (in), 108 P6_IND[7]/GPIO[3] (in), 109 P6_CRS/GPIO[2] (io), 110 P6_COL/GPIO[1] (in), 111 P6_ENABLE/GPIO[0] (in), 113 P0_MDIP[0] (io), 114 P0_MDIN[0] (io), 116 P0_MDIP[1] (io), 117 P0_MDIN[1] (io), 119 P0_MDIP[2] (io), 120 P0_MDIN[2] (io), 121 P0_MDIP[3] (io), 122 P0_MDIN[3] (io), 125 XTAL_OUT (out), 126 XTAL_IN (in)
part B pins: 1 AVDD33 (power), 3 AVDD18 (power), 6 P[1]_AVDD18 (power), 15 P[2]_AVDD18 (power), 24 P[3]_AVDD18 (power), 32 AVDD33 (power), 37 EE_VDDO (power), 41 VSS (power), 43 VDD_CORE (power), 46 P[4]_AVDD18 (power), 49 P4_AVDD33 (power), 54 VDD_CORE (power), 57 S_AVDD18 (power), 64 P5_VDDO (power), 65 VDD_CORE (power), 73 P5_VDDO (power), 80 VDD33 (power), 81 CTRL18 (power), 82 VDD18_SENS (in), 83 VDD18 (power), 84 VDD10_OUT (power), 89 P6_VDDO (power), 96 VDD_CORE (power), 99 P6_VDDO (power), 112 VDD_CORE (power), 115 P[0]_AVDD18 (power), 118 P0_AVDD33 (power), 123 VDD_CORE (power), 124 AVDD18 (power), 127 XTAL_GND (power), 128 VSS (power), EPAD VSS (power)
part A text: Port 5 xMII; RX Interface; TX Interface; MDI Interfaces; Port 6 xMII; SGMII i/f; LEDs/EEPROM i/f; SMI; (CPU); CLOCK

## ICC_MRV_88E6321-A0-NAZ2I000
designator U?, comment 88E6321
ICC; Manufacturer: Marvell Semiconductor; MPN: 88E6321-A0-NAZ2I000; Specification: 7xPort AVB GbE Switch, 2xGE PHYs, 3xRGMII/MII/RGMII, 2xSerdes/SGMII, QFN 108 pin package; Component Type: IC; Mounting Type: SMD; Operating Temperature: -40°C to +85°C; Package: QFN108; Value: 88E6321
footprint ICC_QFN108-1200X1200X90P0.40_EPAD (QFN, 108-Leads, Body 12,00x12,00mm, Pitch 0,40mm, Thermal Pad 4,60x4,60mm, IPC Medium Density)
part A pins: 1 P1_S_TXP (out), 2 P1_S_TXN (out), 4 P1_S_RXP (in), 5 P1_S_RXN (in), 7 P3_MDIP[0] (io), 8 P3_MDIN[0] (io), 10 P3_MDIP[1] (io), 11 P3_MDIN[1] (io), 13 P3_MDIP[2] (io), 14 P3_MDIN[2] (io), 15 P3_MDIP[3] (io), 16 P3_MDIN[3] (io), 17 P4_MDIP[0] (io), 18 P4_MDIN[0] (io), 20 P4_MDIP[1] (io), 21 P4_MDIN[1] (io), 23 P4_MDIP[2] (io), 24 P4_MDIN[2] (io), 25 P4_MDIP[3] (io), 26 P4_MDIN[3] (io), 28 RSET, 29 NC, 30 NC, 31 NC, 32 SE_SCLK (in), 34 XTAL_IN (in), 35 XTAL_OUT (out), 37 P5_OUTD[3]/P5_VDDOS[1] (out), 39 P5_OUTD[2]/P5_MODE[2] (out), 41 P5_OUTD[1]/P5_MODE[1] (out), 42 P5_OUTD[0]/P5_MODE[0] (out), 43 P5_OUTEN/P5_VDDOS[0] (out), 44 P5_OUTCLK/P5_REFCLK/GPIO[0] (io), 45 P5_INCLK/GPIO[1] (in), 46 P5_INDV/GPIO[2] (in), 48 P5_IND[0] (in), 49 P5_IND[1] (in), 50 P5_IND[2]/GPIO[5] (in), 51 P5_IND[3]/GPIO[6] (in), 52 P5_COL/MDIO_PHY/GPIO[7] (io), 53 P5_CRS/MDC_PHY/GPIO[8] (io), 54 MDIO_CPU (io), 55 MDC_CPU (in), 56 ~{INT} (oc), 66 TEST (in), 67 GPIO[4]/P1_SMODE (in), 68 GPIO[3]/P0_SMODE (in), 69 P6_OUTD[3]/P6_VDDOS[1] (out), 70 P6_OUTD[2]/P6_MODE[2] (out), 71 P6_OUTD[1]/P6_MODE[1] (out), 72 P6_OUTD[0]/P6_MODE[0] (out), 73 P6_OUTEN/P6_VDDOS[0] (out), 75 P6_OUTCLK/P6_REFCLK (io), 76 P6_INCLK (io), 77 P6_INDV/P6_RXCTL (in), 78 P6_IND[0] (in), 79 P6_IND[1] (in), 80 P6_IND[2] (in), 81 P6_IND[3] (in), 83 P6_OUTD[7]/P2_OUTD[3]/ADDR[4]n (out), 84 P6_OUTD[6]/P2_OUTD[2]/ADDR[3]n (out), 85 P6_OUTD[5]/P2_OUTD[1]/ADDR[2]n (out), 86 P6_OUTD[4]/P2_OUTD[0]/ADDR[1]n (out), 87 P2_OUTEN/EEE_WP (out), 88 P6_GTXCLK/P2_OUTCLK/ADDR[0]n (out), 90 P6_COL/P2_INCLK/GPIO[9] (io), 91 P6_CRS/P2_INDV/GPIO[10] (io), 92 P6_IND[4]/P2_IND[0]/GPIO[11] (in), 93 P6_IND[5]/P2_IND[1]/GPIO[12] (in), 94 P6_IND[6]/P2_IND[2]/GPIO[13] (in), 95 P6_IND[7]/P2_IND[3]/GPIO[14] (in), 97 EE_DOUT/C1_LED/P4_LED0 (io), 98 EE_CLK/C0_LED/FLOW (out), 100 R2_LED/P3_LED0/NO_CPU (out), 101 R1_LED/P1_LED0/LED_SEL[1] (out), 102 R0_LED/P0_LED0/LED_SEL[0] (out), 103 ~{RESET} (in), 104 P0_S_TXP (out), 105 P0_S_TXN (out), 107 P0_S_RXP (in), 108 P0_S_RXN (in)
part B pins: 3 P1_AVDD15 (power), 6 VSS (power), 9 P3_AVDD15 (power), 12 P3_AVDD33 (power), 19 P4_AVDD15 (power), 22 P4_AVDD33 (power), 27 AVDD15 (power), 33 AVDD15 (power), 36 XTAL_GND (power), 38 VDD_CORE (power), 40 P5_VDDO (power), 47 P5_VDDO (power), 57 VDD33_PLL (power), 58 VDD33 (power), 59 CTOP (power), 60 VOUT15 (power), 61 VOUT15_SEN (power), 62 VOUT11_SEN (power), 63 VOUT11 (power), 64 CBOT (power), 65 VDD_CORE (power), 74 P6_VDDO (power), 82 P6_VDDO (power), 89 P6_VDDO (power), 96 VDD_CORE (power), 99 EE_VDDO (power), 106 P0_AVDD15 (power), EPAD VSS (power)
part A text: Status LEDs; EEPROM i/f; MDI Interfaces; Port 5 xMII; RX Interface; TX Interface; /1000BASE-X I/F; SGMII/100BASE-FX/; Port 6 xMII; SMI (CPU); CLOCK

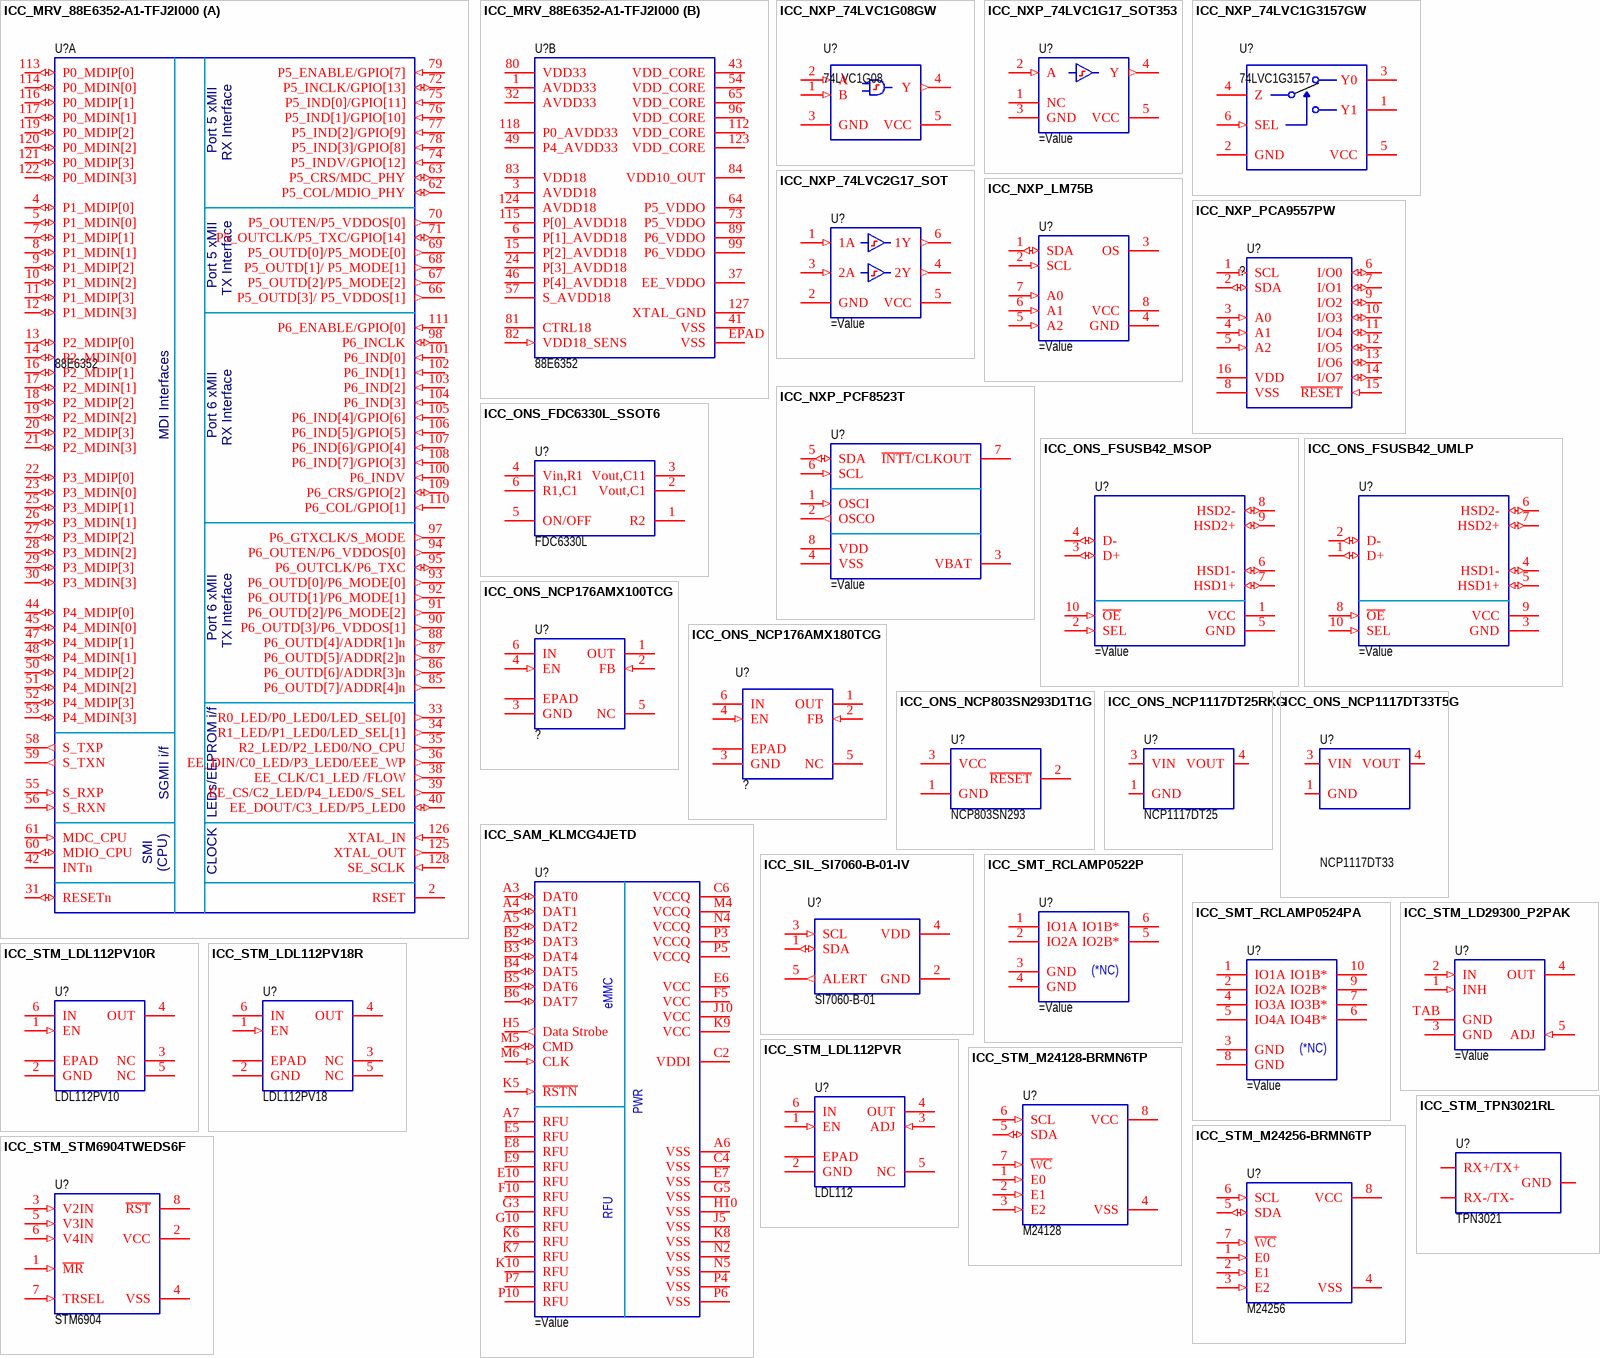
[diagram p10: symbols ICC_MRV_88E6352-A1-TFJ2I000 to ICC_STM_TPN3021RL]

## ICC_MRV_88E6352-A1-TFJ2I000
designator U?, comment 88E6352
ICC; Manufacturer: Marvell Semiconductor; MPN: 88E6352-A1-TFJ2I000; Specification: 7xPort AVB GbE Switch, 5xGE PHYs, 2xRGMII/MII/RGMII, 1xSerdes/SGMII, QFP128 package; Component Type: IC; Mounting Type: SMD; Operating Temperature: -40°C to +85°C; Package: QFP128; Value: 88E6352
part A pins: 2 RSET, 4 P1_MDIP[0] (io), 5 P1_MDIN[0] (io), 7 P1_MDIP[1] (io), 8 P1_MDIN[1] (io), 9 P1_MDIP[2] (io), 10 P1_MDIN[2] (io), 11 P1_MDIP[3] (io), 12 P1_MDIN[3] (io), 13 P2_MDIP[0] (io), 14 P2_MDIN[0] (io), 16 P2_MDIP[1] (io), 17 P2_MDIN[1] (io), 18 P2_MDIP[2] (io), 19 P2_MDIN[2] (io), 20 P2_MDIP[3] (io), 21 P2_MDIN[3] (io), 22 P3_MDIP[0] (io), 23 P3_MDIN[0] (io), 25 P3_MDIP[1] (io), 26 P3_MDIN[1] (io), 27 P3_MDIP[2] (io), 28 P3_MDIN[2] (io), 29 P3_MDIP[3] (io), 30 P3_MDIN[3] (io), 31 RESETn (io), 33 R0_LED/P0_LED0/LED_SEL[0] (out), 34 R1_LED/P1_LED0/LED_SEL[1] (out), 35 R2_LED/P2_LED0/NO_CPU (out), 36 EE_DIN/C0_LED/P3_LED0/EEE_WP (out), 38 EE_CLK/C1_LED /FLOW (out), 39 EE_CS/C2_LED/P4_LED0/S_SEL (out), 40 EE_DOUT/C3_LED/P5_LED0 (io), 42 INTn (oc), 44 P4_MDIP[0] (io), 45 P4_MDIN[0] (io), 47 P4_MDIP[1] (io), 48 P4_MDIN[1] (io), 50 P4_MDIP[2] (io), 51 P4_MDIN[2] (io), 52 P4_MDIP[3] (io), 53 P4_MDIN[3] (io), 55 S_RXP (in), 56 S_RXN (in), 58 S_TXP (out), 59 S_TXN (out), 60 MDIO_CPU (io), 61 MDC_CPU (in), 62 P5_COL/MDIO_PHY (io), 63 P5_CRS/MDC_PHY (io), 66 P5_OUTD[3]/ P5_VDDOS[1] (out), 67 P5_OUTD[2]/P5_MODE[2] (out), 68 P5_OUTD[1]/ P5_MODE[1] (out), 69 P5_OUTD[0]/P5_MODE[0] (out), 70 P5_OUTEN/P5_VDDOS[0] (out), 71 P5_OUTCLK/P5_TXC/GPIO[14] (io), 72 P5_INCLK/GPIO[13] (io), 74 P5_INDV/GPIO[12] (in), 75 P5_IND[0]/GPIO[11] (in), 76 P5_IND[1]/GPIO[10] (in), 77 P5_IND[2]/GPIO[9] (in), 78 P5_IND[3]/GPIO[8] (in), 79 P5_ENABLE/GPIO[7] (in), 85 P6_OUTD[7]/ADDR[4]n (out), 86 P6_OUTD[6]/ADDR[3]n (out), 87 P6_OUTD[5]/ADDR[2]n (out), 88 P6_OUTD[4]/ADDR[1]n (out), 90 P6_OUTD[3]/P6_VDDOS[1] (out), 91 P6_OUTD[2]/P6_MODE[2] (out), 92 P6_OUTD[1]/P6_MODE[1] (out), 93 P6_OUTD[0]/P6_MODE[0] (out), 94 P6_OUTEN/P6_VDDOS[0] (out), 95 P6_OUTCLK/P6_TXC (io), 97 P6_GTXCLK/S_MODE (out), 98 P6_INCLK (io), 100 P6_INDV (in), 101 P6_IND[0] (in), 102 P6_IND[1] (in), 103 P6_IND[2] (in), 104 P6_IND[3] (in), 105 P6_IND[4]/GPIO[6] (in), 106 P6_IND[5]/GPIO[5] (in), 107 P6_IND[6]/GPIO[4] (in), 108 P6_IND[7]/GPIO[3] (in), 109 P6_CRS/GPIO[2] (io), 110 P6_COL/GPIO[1] (in), 111 P6_ENABLE/GPIO[0] (in), 113 P0_MDIP[0] (io), 114 P0_MDIN[0] (io), 116 P0_MDIP[1] (io), 117 P0_MDIN[1] (io), 119 P0_MDIP[2] (io), 120 P0_MDIN[2] (io), 121 P0_MDIP[3] (io), 122 P0_MDIN[3] (io), 125 XTAL_OUT (out), 126 XTAL_IN (in), 128 SE_SCLK (in)
part B pins: 1 AVDD33 (power), 3 AVDD18 (power), 6 P[1]_AVDD18 (power), 15 P[2]_AVDD18 (power), 24 P[3]_AVDD18 (power), 32 AVDD33 (power), 37 EE_VDDO (power), 41 VSS (power), 43 VDD_CORE (power), 46 P[4]_AVDD18 (power), 49 P4_AVDD33 (power), 54 VDD_CORE (power), 57 S_AVDD18 (power), 64 P5_VDDO (power), 65 VDD_CORE (power), 73 P5_VDDO (power), 80 VDD33 (power), 81 CTRL18 (power), 82 VDD18_SENS (in), 83 VDD18 (power), 84 VDD10_OUT (power), 89 P6_VDDO (power), 96 VDD_CORE (power), 99 P6_VDDO (power), 112 VDD_CORE (power), 115 P[0]_AVDD18 (power), 118 P0_AVDD33 (power), 123 VDD_CORE (power), 124 AVDD18 (power), 127 XTAL_GND (power), EPAD VSS (power)
part A text: Port 5 xMII; RX Interface; TX Interface; MDI Interfaces; Port 6 xMII; SGMII i/f; LEDs/EEPROM i/f; SMI; (CPU); CLOCK

## ICC_NXP_74LVC1G08GW
designator U?, comment 74LVC1G08
ICC; Manufacturer: Nexperia (NXP); MPN: 74LVC1G08GW,125; Specification: Single 2-input AND gate, 5V tolerant input, SOT353 package; Component Type: IC; Mounting Type: SMD; Operating Temperature: -40°C to +125°C; Package: SOT353; Value: 74LVC1G08
footprint ICC_SOT353_NXP (Footprint not found)
pins: 1 B (in), 2 A (in), 3 GND (power), 4 Y (out), 5 VCC (power)

## ICC_NXP_74LVC1G17_SOT353
designator U?
IC; Schmitt Trigger Buffer;
pins: 1 NC, 2 A (in), 3 GND (power), 4 Y (out), 5 VCC (power)

## ICC_NXP_74LVC1G3157GW
designator U?, comment 74LVC1G3157
ICC; Manufacturer: Nexperia (NXP); MPN: 74LVC1G3157GW; Specification: SPDT analog switch, SOT363 package; Component Type: IC; Mounting Type: SMD; Operating Temperature: -40°C to +125°C; Package: SOT363; Value: 74LVC1G3157
footprint ICC_SOT363_NXP
pins: 1 Y1, 2 GND (power), 3 Y0, 4 Z, 5 VCC (power), 6 SEL (in)

## ICC_NXP_74LVC2G17_SOT
designator U?
IC; Schmitt Trigger Buffer;
pins: 1 1A (in), 2 GND (power), 3 2A (in), 4 2Y (out), 5 VCC (power), 6 1Y (out)

## ICC_NXP_LM75B
designator U?
ICC; Temperature Sensor;
pins: 1 SDA (io), 2 SCL (in), 3 OS (oc), 4 GND (power), 5 A2 (in), 6 A1 (in), 7 A0 (in), 8 VCC (power)

## ICC_NXP_PCA9557PW
designator U?, comment ?
ICC; Component Type: IC; Mounting Type: SMD; Value: ?
footprint TSSOP16 (Footprint not found)
pins: 1 SCL (in), 2 SDA (io), 3 A0 (in), 4 A1 (in), 5 A2 (in), 6 I/O0 (io), 7 I/O1 (io), 8 VSS (power), 9 I/O2 (io), 10 I/O3 (io), 11 I/O4 (io), 12 I/O5 (io), 13 I/O6 (io), 14 I/O7 (io), 15 ~{RESET} (in), 16 VDD (power)

## ICC_NXP_PCF8523T
designator U?
IC; RTC;
pins: 1 OSCI (in), 2 OSCO (out), 3 VBAT (power), 4 VSS (power), 5 SDA (io), 6 SCL (in), 7 ~{INT1}/CLKOUT (oc), 8 VDD (power)

## ICC_ONS_FDC6330L_SSOT6
designator U?, comment FDC6330L
IC; Load switch;; Manufacturer: ON Semiconductor; Value: FDC6330L; MPN: FDC6330L
pins: 1 R2, 2 Vout,C1, 3 Vout,C11, 4 Vin,R1, 5 ON/OFF, 6 R1,C1

## ICC_ONS_FSUSB42_MSOP
designator U?
IC; USB Switch;
pins: 1 VCC (power), 2 SEL (in), 3 D+ (io), 4 D- (io), 5 GND (power), 6 HSD1- (io), 7 HSD1+ (io), 8 HSD2- (io), 9 HSD2+ (io), 10 ~{OE} (in)

## ICC_ONS_FSUSB42_UMLP
designator U?
IC; USB Switch;
pins: 1 D+ (io), 2 D- (io), 3 GND (power), 4 HSD1- (io), 5 HSD1+ (io), 6 HSD2- (io), 7 HSD2+ (io), 8 ~{OE} (in), 9 VCC (power), 10 SEL (in)

## ICC_ONS_NCP176AMX100TCG
designator U?, comment ?
ICC; Manufacturer: On Semiconductor; Component Type: IC; Mounting Type: SMD; Value: ?
footprint ICC_XDFN6
pins: 1 OUT (power), 2 FB (in), 3 GND (power), 4 EN (in), 5 NC, 6 IN (power), EPAD (power)

## ICC_ONS_NCP176AMX180TCG
designator U?, comment ?
ICC; Manufacturer: On Semiconductor; Component Type: IC; Mounting Type: SMD; Value: ?
footprint XDFN6 (Footprint not found)
pins: 1 OUT (power), 2 FB (in), 3 GND (power), 4 EN (in), 5 NC, 6 IN (power), EPAD (power)

## ICC_ONS_NCP803SN293D1T1G
designator U?, comment NCP803SN293
ICC; Manufacturer: On Semiconductor; MPN: NCP803SN293D1T1G; Specification: Very Low Supply Current 3-Pin Reset Monitor, 2.93V Threshold, 3.3ms delay, SOT23 package; Component Type: IC; Mounting Type: SMD; Operating Temperature: -40°C to +125°C; Package: SOT23-3; Value: NCP803SN293
footprint SOT23-3
pins: 1 GND (power), 2 ~{RESET} (oc), 3 VCC (power)

## ICC_ONS_NCP1117DT25RKG
designator U?, comment NCP1117DT25
IC; Manufacturer: ON Semiconductor; MPN: NCP1117DT25RKG; Replacement: YES; Specification: LDO voltage regulator, 2.5V output voltage, 1A output current, DPAK package; Component Type: IC; Mounting Type: SMD; Operating Temperature: 0°C to +125°C; Package: DPAK (TO-252-3); System: ?; Value: NCP1117DT25
footprint TO252
pins: 1 GND (power), 3 VIN (power), 4 VOUT (power)

## ICC_ONS_NCP1117DT33T5G
designator U?, comment NCP1117DT33
IC; Manufacturer: ON Semiconductor; MPN: NCP1117DT33T5G; Replacement: YES; Specification: LDO voltage regulator, 3.3V output voltage, 1A output current, DPAK package; Component Type: IC; Mounting Type: SMD; Operating Temperature: 0°C to +125°C; Package: DPAK (TO-252-3); System: ?; Value: NCP1117DT33
footprint TO252
pins: 1 GND (power), 3 VIN (power), 4 VOUT (power)

## ICC_SAM_KLMCG4JETD
designator U?
IC; eMMC Memory;
pins: A3 DAT0 (io), A4 DAT1 (io), A5 DAT2 (io), A6 VSS (power), A7 RFU, B2 DAT3 (io), B3 DAT4 (io), B4 DAT5 (io), B5 DAT6 (io), B6 DAT7 (io), C2 VDDI (power), C4 VSS (power), C6 VCCQ (power), E5 RFU, E6 VCC (power), E7 VSS (power), E8 RFU, E9 RFU, E10 RFU, F5 VCC (power), F10 RFU, G3 RFU, G5 VSS (power), G10 RFU, H5 Data Strobe (out), H10 VSS (power), J5 VSS (power), J10 VCC (power), K5 ~{RSTN} (in), K6 RFU, K7 RFU, K8 VSS (power), K9 VCC (power), K10 RFU, M4 VCCQ (power), M5 CMD (io), M6 CLK (in), N2 VSS (power), N4 VCCQ (power), N5 VSS (power), P3 VCCQ (power), P4 VSS (power), P5 VCCQ (power), P6 VSS (power), P7 RFU, P10 RFU
text: eMMC; PWR

## ICC_SIL_SI7060-B-01-IV
designator U?, comment SI7060-B-01
ICC; Manufacturer: Silicon Laboratories Inc.; MPN: SI7060-B-01-IV; Specification: Low power temperature sensor with alert output, I2C interface, SOT23-5 package; Component Type: IC; Mounting Type: SMD; Operating Temperature: -40°C to +125°C; Package: SOT23-5; Value: SI7060-B-01
footprint PKG_SOT23-5 (Footprint not found)
pins: 1 SDA (io), 2 GND (power), 3 SCL (in), 4 VDD (power), 5 ALERT (out)

## ICC_SMT_RCLAMP0522P
designator U?
IC; TVS Arrays;
pins: 1 IO1A, 2 IO2A, 3 GND (power), 4 GND (power), 5 IO2B*, 6 IO1B*
text: (*NC)

## ICC_SMT_RCLAMP0524PA
designator U?
IC; TVS Arrays;
pins: 1 IO1A, 2 IO2A, 3 GND (power), 4 IO3A, 5 IO4A, 6 IO4B*, 7 IO3B*, 8 GND (power), 9 IO2B*, 10 IO1B*
text: (*NC)

## ICC_STM_LD29300_P2PAK
designator U?
IC; LDO Regulator;
pins: 1 INH (in), 2 IN (in), 3 GND (power), 4 OUT (power), 5 ADJ (in), TAB GND (power)